# Altium schematic symbol library Comp.SchLib: 212 symbols (part 1 of 2)
Pins are listed as number, name and electrical type; pins without a type are passive.

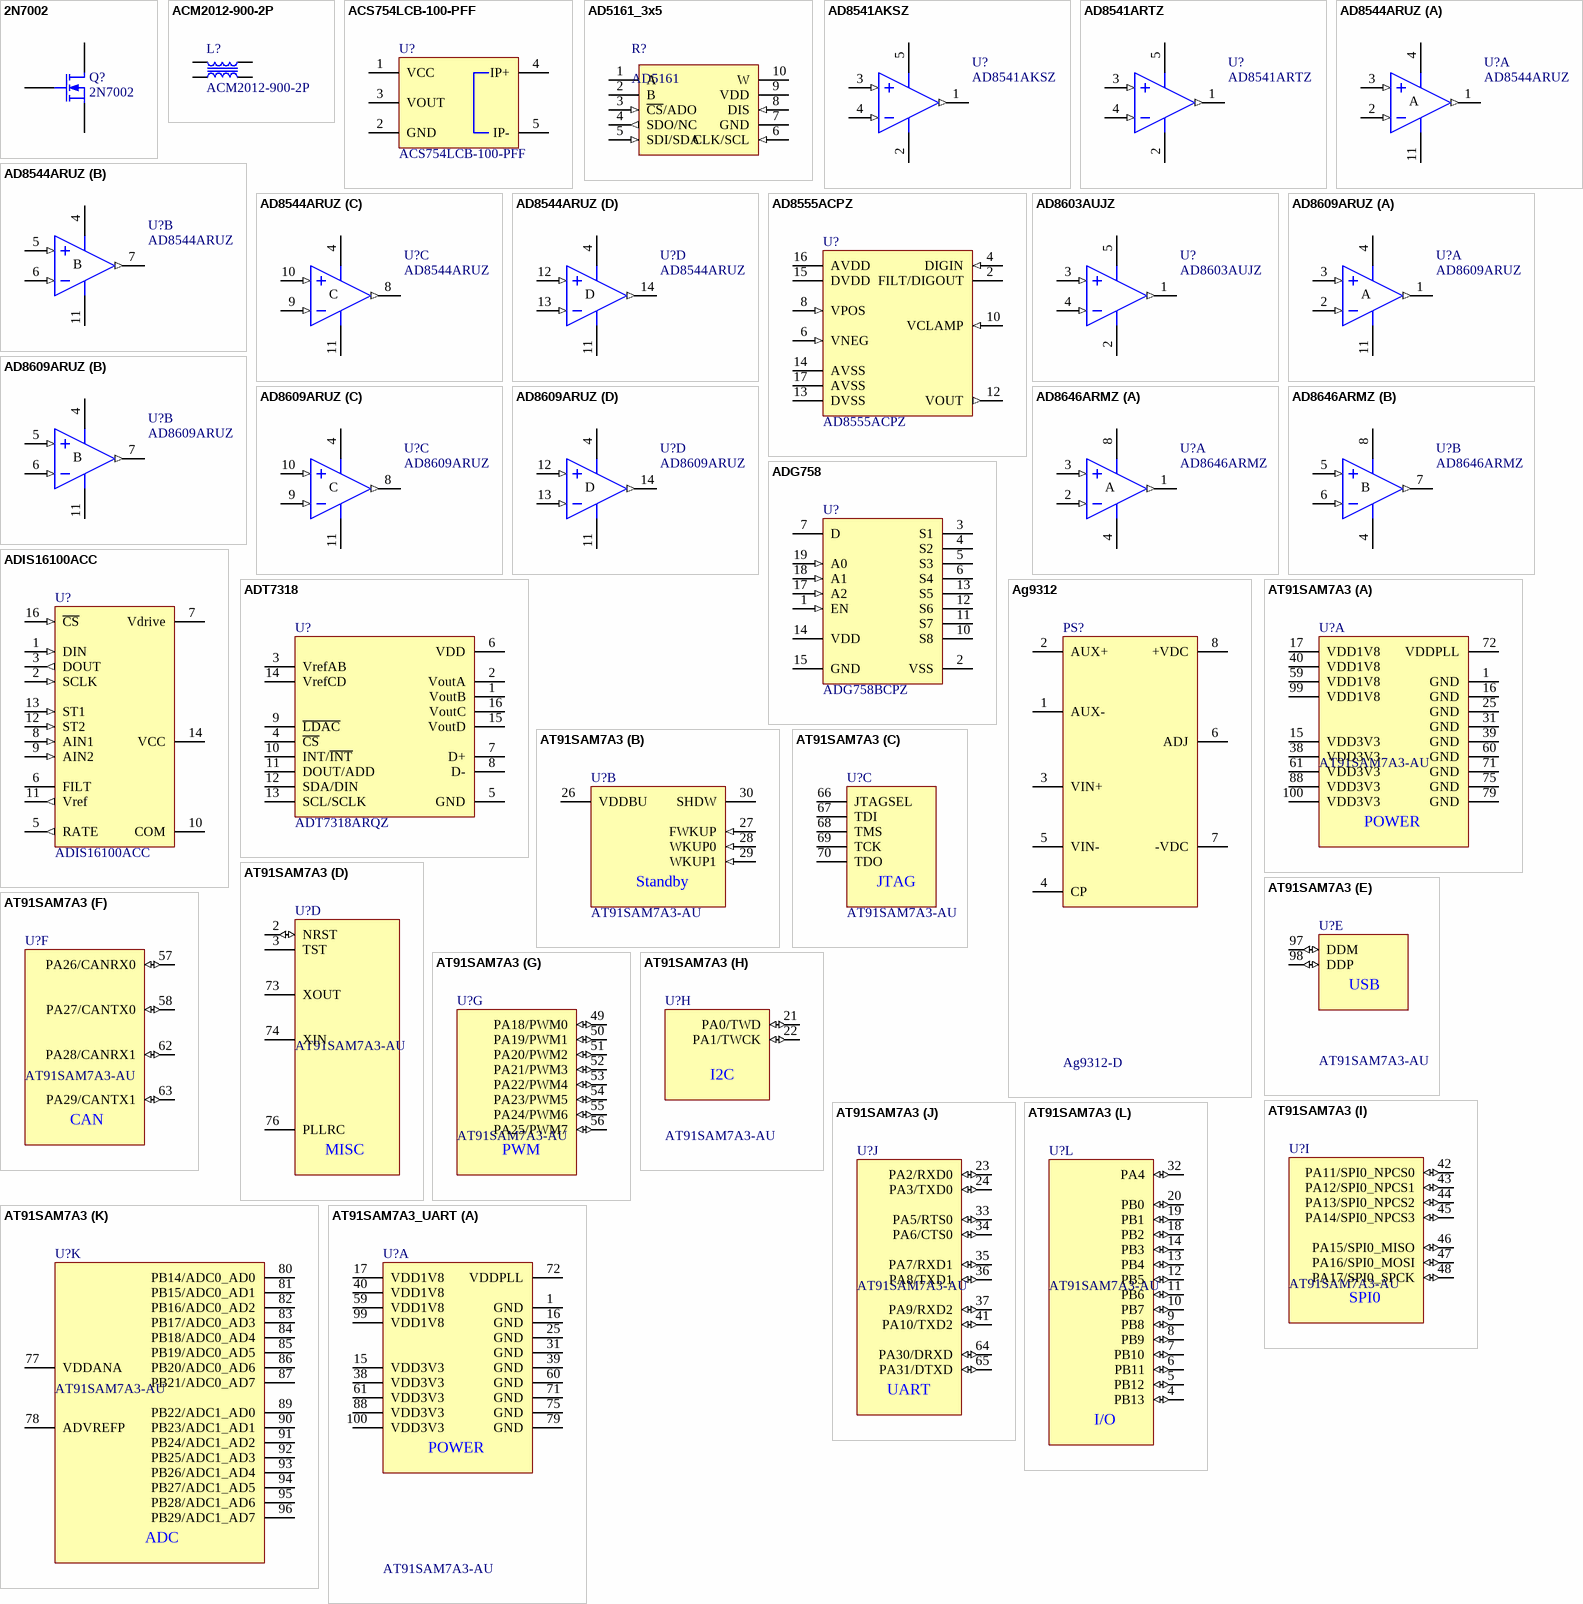
[diagram p0: symbols 2N7002 to AT91SAM7A3_UART]

## 2N7002
designator Q?
N-Channel Enhancement Mode Vertical DMOS FET; Manufacturer: NXP; OrderCode: 2N7002 T/R; Distributor: Digikey
footprint SO-G3 (SOT-23; 3 Leads; Body 3.0 x 2.6 mm, inc. leads (LxW max))
simulation model 2N7002 (SUBCKT)
pins: 1 G, 2 S, 3 D

## ACM2012-900-2P
designator L?
Common mode choke; Manufacturer: TDK; Distributor: Digikey; OrderCode: ACM2012-900-2P
footprint CHOKE (Common mode choke)
pins: 1, 2, 3, 4

## ACS754LCB-100-PFF
designator U?
High Current Sensor; Manufacturer: Allegro; Distributor: Digikey; OrderCode: ACS754LCB-100-PFF
footprint CB-PFF (High Current Sensor)
pins: 1 VCC, 2 GND, 3 VOUT, 4 IP+, 5 IP-

## AD5161_3x5
designator R?, comment AD5161
AD5161 SPI/I2C Selectable Digital Potentiometer; Manufacturer: Analog Devices; OrderCode: AD5161BRMZ50-ND; Distributor: Digikey
footprint TSSO3x5-G10 (Shrink Small Outline; 10 Leads; Body Width 3 mm; Pitch 0.5 mm)
footprint MSOP-10
pins: 1 A, 2 B, 3 ~{CS}/ADO (in), 4 SDO/NC (out), 5 SDI/SDA (in), 6 CLK/SCL (in), 7 GND (power), 8 DIS (in), 9 VDD (power), 10 W

## AD8541AKSZ
designator U?
1MHz CMOS Rail-to-Rail Operational Amplifier; Manufacturer: Analog Devices; OrderCode: AD8541AKSZ-REEL7; Distributor: Digikey
footprint SC70-5 (SC-70; 5 Leads)
pins: 1 OUT (out), 2 V- (power), 3 IN+ (in), 4 IN- (in), 5 V+ (power)

## AD8541ARTZ
designator U?
1MHz CMOS Rail-to-Rail Operational Amplifier; Manufacturer: Analog Devices; OrderCode: AD8541ARTZ-REEL7; Distributor: Digikey
footprint SO-G5/P.95 (SOT-23/SC-74A; 5 Leads; Body 3.1 x 3 mm, inc. leads (LxW max))
pins: 1 OUT (out), 2 V- (power), 3 IN+ (in), 4 IN- (in), 5 V+ (power)

## AD8544ARUZ
designator U?
CMOS Rail-to-Rail Operational Amplifier; Manufacturer: Analog Devices; Distributor: Digikey; OrderCode: AD8544ARUZ
footprint TSSO5x6-G14/X.3 (Shrink Small Outline; 14 Leads; Body Width 4.4 mm; Pitch 0.65 mm)
pins on every part: 4 V+ (power), 11 V- (power)
part A pins: 1 OUT (out), 2 IN- (in), 3 IN+ (in)
part B pins: 5 IN+ (in), 6 IN- (in), 7 OUT (out)
part C pins: 8 OUT (out), 9 IN- (in), 10 IN+ (in)
part D pins: 12 IN+ (in), 13 IN- (in), 14 OUT (out)
part A text: A
part B text: B
part C text: C
part D text: D

## AD8555ACPZ
designator U?
Digitally Programmable Signal Amplifier; Manufacturer: Analog Devices; OrderCode: AD8555ACPZ-REEL7; Distributor: Digikey
footprint QFN4X4-16 (Quad Flat No Lead, Plastic; 16 Terminals; Body 4 x 4 mm; Pitch 0.65 mm)
pins: 2 FILT/DIGOUT, 4 DIGIN (in), 6 VNEG (in), 8 VPOS (in), 10 VCLAMP (in), 12 VOUT (out), 13 DVSS (power), 14 AVSS (power), 15 DVDD (power), 16 AVDD (power), 17 AVSS (power)

## AD8603AUJZ
designator U?
1MHz CMOS Rail-to-Rail Operational Amplifier; Manufacturer: Analog Devices; OrderCode: AD8603AUJZ-REEL7; Distributor: Digikey
footprint SO-G5/P.95 (SOT-23/SC-74A; 5 Leads; Body 3.1 x 3 mm, inc. leads (LxW max))
pins: 1 OUT (out), 2 V- (power), 3 IN+ (in), 4 IN- (in), 5 V+ (power)

## AD8609ARUZ
designator U?
CMOS Rail-to-Rail Operational Amplifier; Manufacturer: Analog Devices; Distributor: Digikey; OrderCode: AD8609ARUZ
footprint TSSO5x6-G14/X.3 (Shrink Small Outline; 14 Leads; Body Width 4.4 mm; Pitch 0.65 mm)
pins on every part: 4 V+ (power), 11 V- (power)
part A pins: 1 OUT (out), 2 IN- (in), 3 IN+ (in)
part B pins: 5 IN+ (in), 6 IN- (in), 7 OUT (out)
part C pins: 8 OUT (out), 9 IN- (in), 10 IN+ (in)
part D pins: 12 IN+ (in), 13 IN- (in), 14 OUT (out)
part A text: A
part B text: B
part C text: C
part D text: D

## AD8646ARMZ
designator U?
Precision Low Noise CMOS Rail-to-Rail Operational Amplifier; Manufacturer: Analog Devices; OrderCode: AD8646ARMZ-R2; Distributor: Digikey
footprint MSOP-8/P.65 (MSOP, Plastic; 8 Leads; Pitch 0.65 mm)
pins on every part: 4 V- (power), 8 V+ (power)
part A pins: 1 OUT (out), 2 IN- (in), 3 IN+ (in)
part B pins: 5 IN+ (in), 6 IN- (in), 7 OUT (out)
part A text: A
part B text: B

## ADG758
designator U?, comment ADG758BCPZ
8 to 1 Analog Multiplexer; Manufacturer: Analog Devices; OrderCode: ADG758BCPZ; Distributor: Digikey
footprint QFN4X4-20 (Quad Flat No Lead; 20 Terminals; Body 4 x 4 mm; Pitch 0.5 mm)
pins: 1 EN (in), 2 VSS (power), 3 S1, 4 S2, 5 S3, 6 S4, 7 D, 10 S8, 11 S7, 12 S6, 13 S5, 14 VDD (power), 15 GND (power), 17 A2 (in), 18 A1 (in), 19 A0 (in)

## ADIS16100ACC
designator U?
SPI Gyroscope; Manufacturer: Analog Devices; OrderCode: ADIS16100ACC; Distributor: Digikey
footprint ADIS16100 (Gyroscope)
pins: 1 DIN (in), 2 SCLK (in), 3 DOUT (out), 5 RATE (out), 6 FILT, 7 Vdrive (power), 8 AIN1 (in), 9 AIN2 (in), 10 COM (power), 11 Vref (out), 12 ST2 (in), 13 ST1 (in), 14 VCC (power), 16 ~{CS} (in)

## ADT7318
designator U?, comment ADT7318ARQZ
4-ch 8 bit DAC and Temp Sensor; Manufacturer: Analog Devices; Distributor: Digikey; OrderCode: ADT7318ARQZ
footprint QSOP5x6-G16 (Shrink Small Outline; 16 Leads; Body Width 4.4 mm; Pitch 0.65 mm)
pins: 1 VoutB, 2 VoutA, 3 VrefAB, 4 ~{CS}, 5 GND (power), 6 VDD (power), 7 D+, 8 D-, 9 ~{LDAC}, 10 INT/~{INT}, 11 DOUT/ADD, 12 SDA/DIN, 13 SCL/SCLK, 14 VrefCD, 15 VoutD, 16 VoutC

## Ag9312
designator PS?, comment Ag9312-D
12V POE power supply module; Manufacturer: Silver Telecom; OrderCode: Ag9312; Distributor: www.semiconductorstore.com
footprint POE_SUPPLY (Power Over Ethernet Power Supply)
pins: 1 AUX- (power), 2 AUX+ (power), 3 VIN+ (power), 4 CP, 5 VIN- (power), 6 ADJ, 7 -VDC (power), 8 +VDC (power)

## AT91SAM7A3
designator U?, comment AT91SAM7A3-AU
ARM Processor; Manufacturer: Atmel; Distributor: Digikey; OrderCode: AT91SAM7A3-AU
footprint F-QFP14x14-G100/X.3N (100-Pin Plastic Quad Flat Pack (TQFP))
part A pins: 1 GND (power), 15 VDD3V3 (power), 16 GND (power), 17 VDD1V8 (power), 25 GND (power), 31 GND (power), 38 VDD3V3 (power), 39 GND (power), 40 VDD1V8 (power), 59 VDD1V8 (power), 60 GND (power), 61 VDD3V3 (power), 71 GND (power), 72 VDDPLL (power), 75 GND (power), 79 GND (power), 88 VDD3V3 (power), 99 VDD1V8 (power), 100 VDD3V3 (power)
part B pins: 26 VDDBU (power), 27 FWKUP (in), 28 WKUP0 (in), 29 WKUP1 (in), 30 SHDW (oc)
part C pins: 66 JTAGSEL, 67 TDI, 68 TMS, 69 TCK, 70 TDO
part D pins: 2 NRST (io), 3 TST, 73 XOUT, 74 XIN, 76 PLLRC
part E pins: 97 DDM (io), 98 DDP (io)
part F pins: 57 PA26/CANRX0 (io), 58 PA27/CANTX0 (io), 62 PA28/CANRX1 (io), 63 PA29/CANTX1 (io)
part G pins: 49 PA18/PWM0 (io), 50 PA19/PWM1 (io), 51 PA20/PWM2 (io), 52 PA21/PWM3 (io), 53 PA22/PWM4 (io), 54 PA23/PWM5 (io), 55 PA24/PWM6 (io), 56 PA25/PWM7 (io)
part H pins: 21 PA0/TWD (io), 22 PA1/TWCK (io)
part I pins: 42 PA11/SPI0_NPCS0 (io), 43 PA12/SPI0_NPCS1 (io), 44 PA13/SPI0_NPCS2 (io), 45 PA14/SPI0_NPCS3 (io), 46 PA15/SPI0_MISO (io), 47 PA16/SPI0_MOSI (io), 48 PA17/SPI0_SPCK (io)
part J pins: 23 PA2/RXD0 (io), 24 PA3/TXD0 (io), 33 PA5/RTS0 (io), 34 PA6/CTS0 (io), 35 PA7/RXD1 (io), 36 PA8/TXD1 (io), 37 PA9/RXD2 (io), 41 PA10/TXD2 (io), 64 PA30/DRXD (io), 65 PA31/DTXD (io)
part K pins: 77 VDDANA (power), 78 ADVREFP, 80 PB14/ADC0_AD0, 81 PB15/ADC0_AD1, 82 PB16/ADC0_AD2, 83 PB17/ADC0_AD3, 84 PB18/ADC0_AD4, 85 PB19/ADC0_AD5, 86 PB20/ADC0_AD6, 87 PB21/ADC0_AD7, 89 PB22/ADC1_AD0, 90 PB23/ADC1_AD1, 91 PB24/ADC1_AD2, 92 PB25/ADC1_AD3, 93 PB26/ADC1_AD4, 94 PB27/ADC1_AD5, 95 PB28/ADC1_AD6, 96 PB29/ADC1_AD7
part L pins: 4 PB13 (io), 5 PB12 (io), 6 PB11 (io), 7 PB10 (io), 8 PB9 (io), 9 PB8 (io), 10 PB7 (io), 11 PB6 (io), 12 PB5 (io), 13 PB4 (io), 14 PB3 (io), 18 PB2 (io), 19 PB1 (io), 20 PB0 (io), 32 PA4 (io)
part A text: POWER
part B text: Standby
part C text: JTAG
part D text: MISC
part E text: USB
part F text: CAN
part G text: PWM
part H text: I2C
part I text: SPI0
part J text: UART
part K text: ADC
part L text: I/O

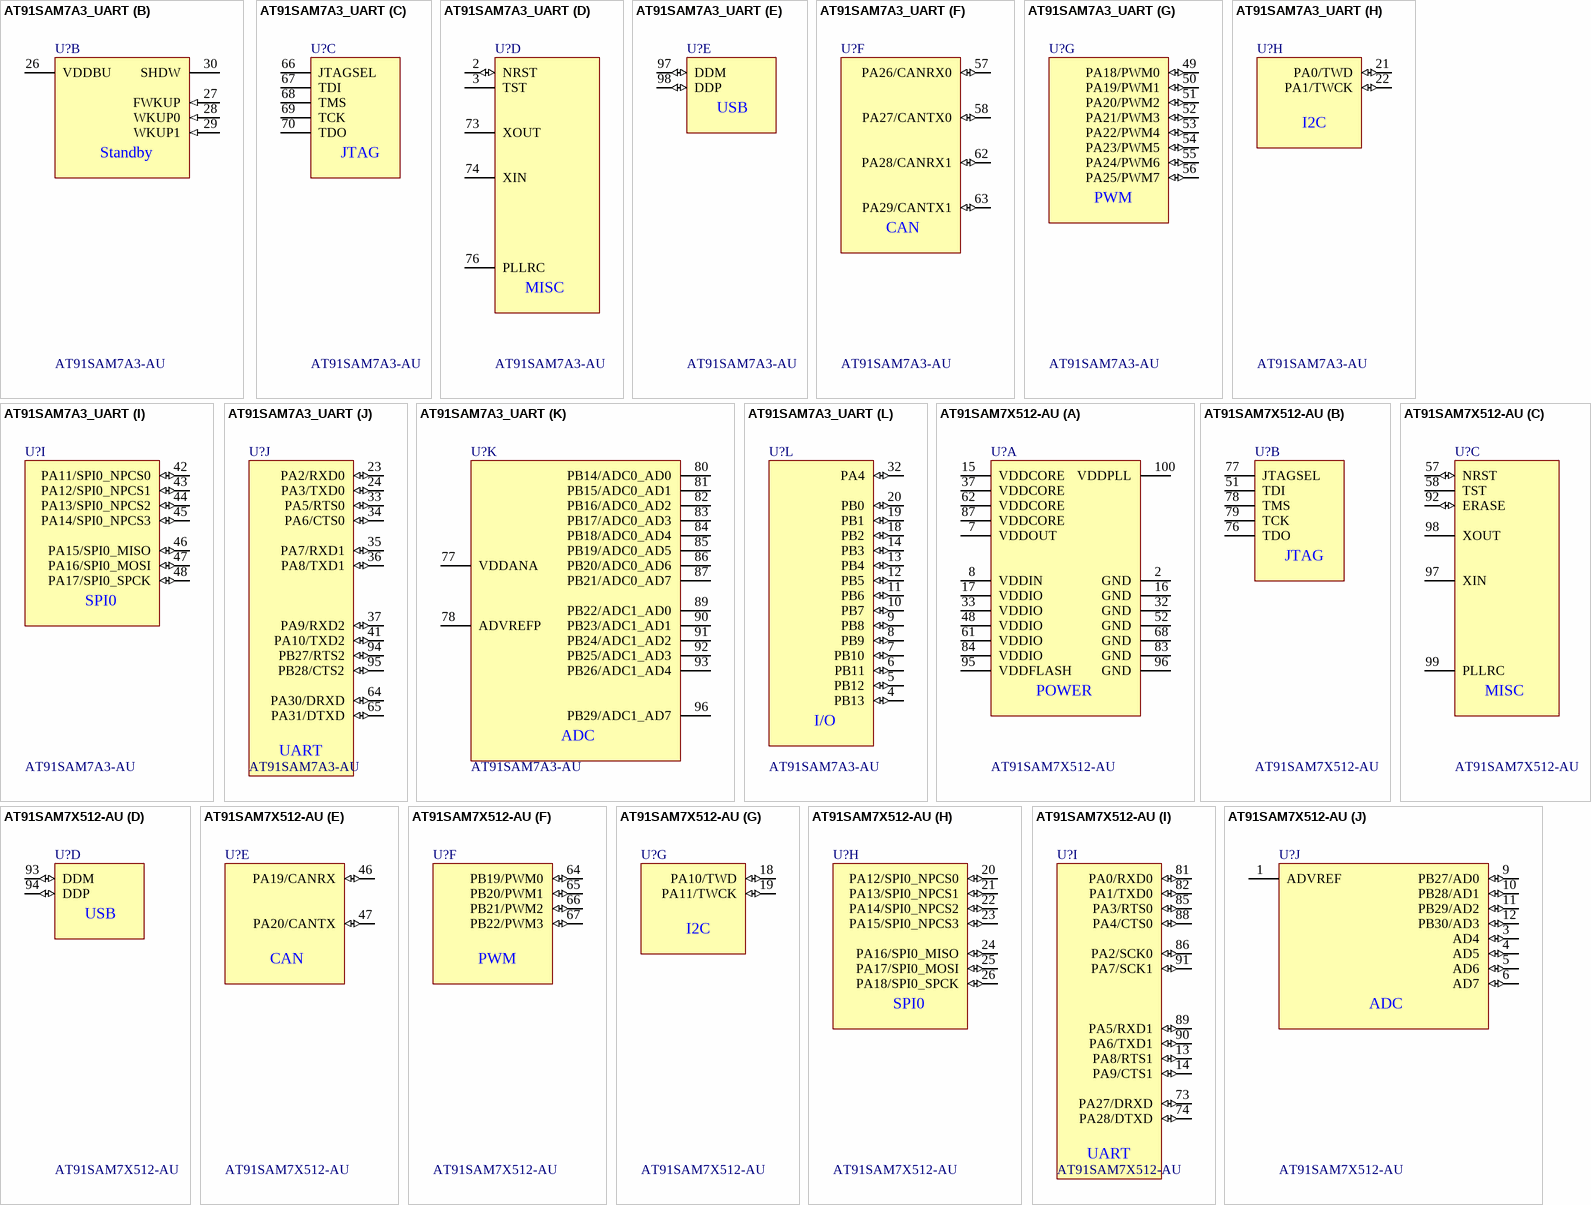
[diagram p1: symbols AT91SAM7A3_UART to AT91SAM7X512-AU]

## AT91SAM7A3_UART
designator U?, comment AT91SAM7A3-AU
ARM Processor; Manufacturer: Atmel; Distributor: Digikey; OrderCode: AT91SAM7A3-AU
footprint F-QFP14x14-G100/X.3N (100-Pin Plastic Quad Flat Pack (TQFP))
part A pins: 1 GND (power), 15 VDD3V3 (power), 16 GND (power), 17 VDD1V8 (power), 25 GND (power), 31 GND (power), 38 VDD3V3 (power), 39 GND (power), 40 VDD1V8 (power), 59 VDD1V8 (power), 60 GND (power), 61 VDD3V3 (power), 71 GND (power), 72 VDDPLL (power), 75 GND (power), 79 GND (power), 88 VDD3V3 (power), 99 VDD1V8 (power), 100 VDD3V3 (power)
part B pins: 26 VDDBU (power), 27 FWKUP (in), 28 WKUP0 (in), 29 WKUP1 (in), 30 SHDW (oc)
part C pins: 66 JTAGSEL, 67 TDI, 68 TMS, 69 TCK, 70 TDO
part D pins: 2 NRST (io), 3 TST, 73 XOUT, 74 XIN, 76 PLLRC
part E pins: 97 DDM (io), 98 DDP (io)
part F pins: 57 PA26/CANRX0 (io), 58 PA27/CANTX0 (io), 62 PA28/CANRX1 (io), 63 PA29/CANTX1 (io)
part G pins: 49 PA18/PWM0 (io), 50 PA19/PWM1 (io), 51 PA20/PWM2 (io), 52 PA21/PWM3 (io), 53 PA22/PWM4 (io), 54 PA23/PWM5 (io), 55 PA24/PWM6 (io), 56 PA25/PWM7 (io)
part H pins: 21 PA0/TWD (io), 22 PA1/TWCK (io)
part I pins: 42 PA11/SPI0_NPCS0 (io), 43 PA12/SPI0_NPCS1 (io), 44 PA13/SPI0_NPCS2 (io), 45 PA14/SPI0_NPCS3 (io), 46 PA15/SPI0_MISO (io), 47 PA16/SPI0_MOSI (io), 48 PA17/SPI0_SPCK (io)
part J pins: 23 PA2/RXD0 (io), 24 PA3/TXD0 (io), 33 PA5/RTS0 (io), 34 PA6/CTS0 (io), 35 PA7/RXD1 (io), 36 PA8/TXD1 (io), 37 PA9/RXD2 (io), 41 PA10/TXD2 (io), 64 PA30/DRXD (io), 65 PA31/DTXD (io), 94 PB27/RTS2 (io), 95 PB28/CTS2 (io)
part K pins: 77 VDDANA (power), 78 ADVREFP, 80 PB14/ADC0_AD0, 81 PB15/ADC0_AD1, 82 PB16/ADC0_AD2, 83 PB17/ADC0_AD3, 84 PB18/ADC0_AD4, 85 PB19/ADC0_AD5, 86 PB20/ADC0_AD6, 87 PB21/ADC0_AD7, 89 PB22/ADC1_AD0, 90 PB23/ADC1_AD1, 91 PB24/ADC1_AD2, 92 PB25/ADC1_AD3, 93 PB26/ADC1_AD4, 96 PB29/ADC1_AD7
part L pins: 4 PB13 (io), 5 PB12 (io), 6 PB11 (io), 7 PB10 (io), 8 PB9 (io), 9 PB8 (io), 10 PB7 (io), 11 PB6 (io), 12 PB5 (io), 13 PB4 (io), 14 PB3 (io), 18 PB2 (io), 19 PB1 (io), 20 PB0 (io), 32 PA4 (io)
part A text: POWER
part B text: Standby
part C text: JTAG
part D text: MISC
part E text: USB
part F text: CAN
part G text: PWM
part H text: I2C
part I text: SPI0
part J text: UART
part K text: ADC
part L text: I/O

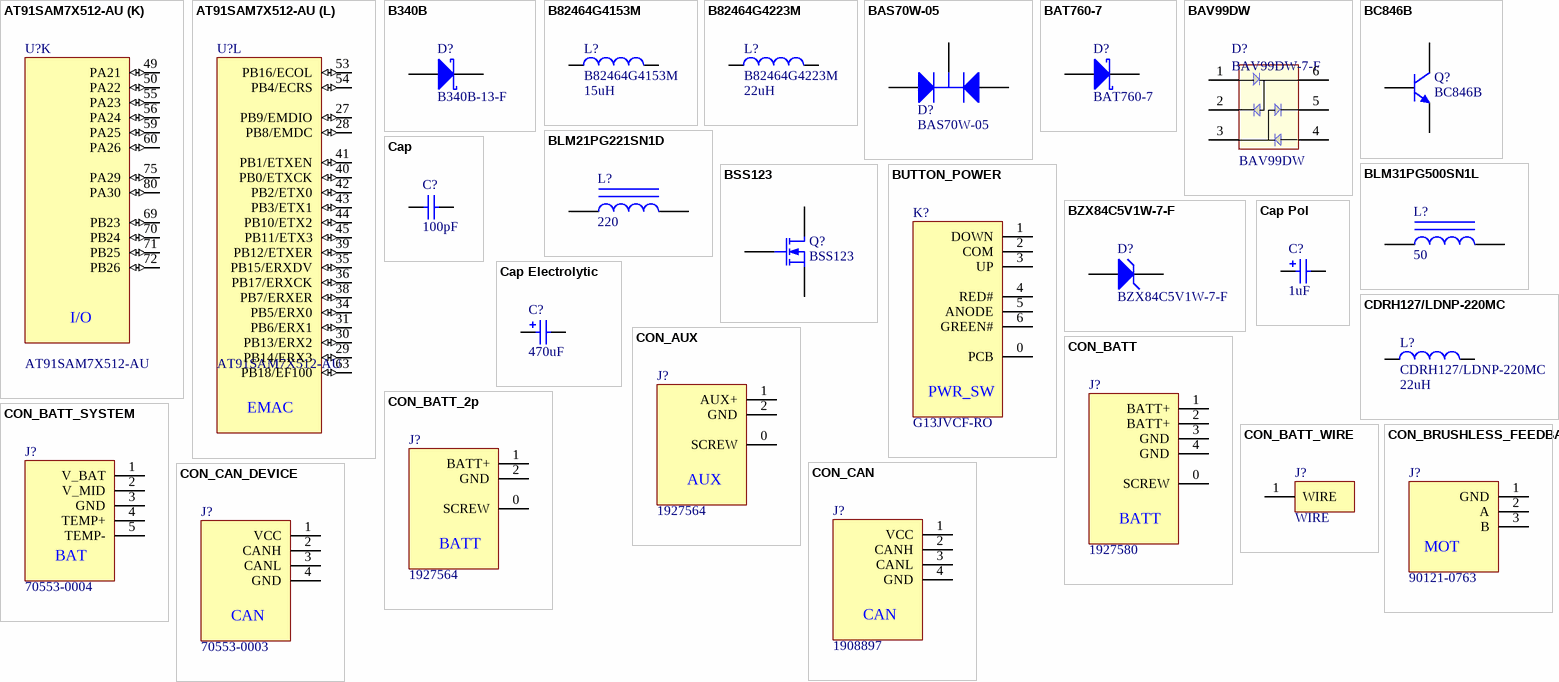
[diagram p2: symbols AT91SAM7X512-AU to CON_CAN_DEVICE]

## AT91SAM7X512-AU
designator U?
ARM Processor; Manufacturer: Atmel; Distributor: Digikey; OrderCode: AT91SAM7X512-AU
footprint F-QFP14x14-G100/X.3N (100-Pin Plastic Quad Flat Pack (TQFP))
part A pins: 2 GND (power), 7 VDDOUT (power), 8 VDDIN (power), 15 VDDCORE (power), 16 GND (power), 17 VDDIO (power), 32 GND (power), 33 VDDIO (power), 37 VDDCORE (power), 48 VDDIO (power), 52 GND (power), 61 VDDIO (power), 62 VDDCORE (power), 68 GND (power), 83 GND (power), 84 VDDIO (power), 87 VDDCORE (power), 95 VDDFLASH (power), 96 GND (power), 100 VDDPLL (power)
part B pins: 51 TDI, 76 TDO, 77 JTAGSEL, 78 TMS, 79 TCK
part C pins: 57 NRST (io), 58 TST, 92 ERASE (io), 97 XIN, 98 XOUT, 99 PLLRC
part D pins: 93 DDM (io), 94 DDP (io)
part E pins: 46 PA19/CANRX (io), 47 PA20/CANTX (io)
part F pins: 64 PB19/PWM0 (io), 65 PB20/PWM1 (io), 66 PB21/PWM2 (io), 67 PB22/PWM3 (io)
part G pins: 18 PA10/TWD (io), 19 PA11/TWCK (io)
part H pins: 20 PA12/SPI0_NPCS0 (io), 21 PA13/SPI0_NPCS1 (io), 22 PA14/SPI0_NPCS2 (io), 23 PA15/SPI0_NPCS3 (io), 24 PA16/SPI0_MISO (io), 25 PA17/SPI0_MOSI (io), 26 PA18/SPI0_SPCK (io)
part I pins: 13 PA8/RTS1 (io), 14 PA9/CTS1 (io), 73 PA27/DRXD (io), 74 PA28/DTXD (io), 81 PA0/RXD0 (io), 82 PA1/TXD0 (io), 85 PA3/RTS0 (io), 86 PA2/SCK0 (io), 88 PA4/CTS0 (io), 89 PA5/RXD1 (io), 90 PA6/TXD1 (io), 91 PA7/SCK1 (io)
part J pins: 1 ADVREF, 3 AD4 (io), 4 AD5 (io), 5 AD6 (io), 6 AD7 (io), 9 PB27/AD0 (io), 10 PB28/AD1 (io), 11 PB29/AD2 (io), 12 PB30/AD3 (io)
part K pins: 49 PA21 (io), 50 PA22 (io), 55 PA23 (io), 56 PA24 (io), 59 PA25 (io), 60 PA26 (io), 69 PB23 (io), 70 PB24 (io), 71 PB25 (io), 72 PB26 (io), 75 PA29 (io), 80 PA30 (io)
part L pins: 27 PB9/EMDIO (io), 28 PB8/EMDC (io), 29 PB14/ERX3 (io), 30 PB13/ERX2 (io), 31 PB6/ERX1 (io), 34 PB5/ERX0 (io), 35 PB15/ERXDV (io), 36 PB17/ERXCK (io), 38 PB7/ERXER (io), 39 PB12/ETXER (io), 40 PB0/ETXCK (io), 41 PB1/ETXEN (io), 42 PB2/ETX0 (io), 43 PB3/ETX1 (io), 44 PB10/ETX2 (io), 45 PB11/ETX3 (io), 53 PB16/ECOL (io), 54 PB4/ECRS (io), 63 PB18/EF100 (io)
part A text: POWER
part B text: JTAG
part C text: MISC
part D text: USB
part E text: CAN
part F text: PWM
part G text: I2C
part H text: SPI0
part I text: UART
part J text: ADC
part K text: I/O
part L text: EMAC

## B340B
designator D?, comment B340B-13-F
Schottky Diode 40V 3A SMB; Manufacturer: Diodes Inc; Distributor: Digikey; OrderCode: B340B-13-F
footprint DSO-C2/X2.3 (DO-214-AA/SMB; 2 C-Bend Leads; Body 5.3 x 3.6 mm, inc. leads (LxW))
simulation model SKYDIODE (Diode)
signal-integrity model D Schottky
pins: 1 A, 2 K

## B82464G4153M
designator L?  value 15uH
Inductor 15uH 2.75A EPCOS; Manufacturer: EPCOS; Distributor: Digikey; OrderCode: B82464G4153M
footprint B82464G4 (Coil footprint)
simulation model INDUCTOR (Inductor)
signal-integrity model Inductor
pins: 1, 2

## B82464G4223M
designator L?  value 22uH
Inductor 22uH 2.5A EPCOS; Manufacturer: EPCOS; Distributor: Digikey; OrderCode: B82464G4223M
footprint B82464G4 (Coil footprint)
simulation model INDUCTOR (Inductor)
signal-integrity model Inductor
pins: 1, 2

## BAS70W-05
designator D?
SOT23 High-Speed Switching Diode Pair Common Cathode; Manufacturer: Diodes; OrderCode: BAS70W-05-7-F; Distributor: Digikey
footprint SO-G3/D4 (SOT-323/SC-70; 3 Leads; Body 2.2 x 2.2 mm, inc. leads (LxW max))
pins: 1 A1, 2 A2, 3 K

## BAT760-7
designator D?
Schottky Diode 30V 1A SOD323; Manufacturer: Diodes Inc; Distributor: Digikey; OrderCode: BAT760-7
footprint SOD-323 (SOD-323/SC-76; 2 Leads; Body 1.7 x 1.3 mm, (LxW))
simulation model SKYDIODE (Diode)
signal-integrity model D Schottky
pins: 1 A, 2 K

## BAV99DW
designator D?, comment BAV99DW-7-F
Quad surface mount switching diode array; Manufacturer: Diodes Incorporated; Distributor: DigiKey; OrderCode: BAV99DW-7-F
footprint SOT-323-6L
pins: 1 A1, 2 C1, 3 AC2, 4 A2, 5 C2, 6 AC1

## BC846B
designator Q?
NPN Bipolar Transistor; Manufacturer: NXP; OrderCode: BC846B T/R; Distributor: Digikey
footprint SO-G3 (SOT-23; 3 Leads; Body 3.0 x 2.6 mm, inc. leads (LxW max))
simulation model NPN
signal-integrity model NPN
pins: 1 B, 2 E, 3 C

## BLM21PG221SN1D
designator L?  value 220  (hidden comment: BLM21PG221SN1D)
Ferrite-Core Inductor; Manufacturer: Murata; OrderCode: BLM21PG221SN1D; Distributor: Digikey
footprint CR2012-0805 (Chip Resistor; Body 2.0 x 1.3 mm (LxW typ))
simulation model INDUCTOR (Inductor)
signal-integrity model Inductor Iron
pins: 1, 2

## BLM31PG500SN1L
designator L?  value 50  (hidden comment: BLM31PG500SN1L)
Ferrite-Core Inductor; Manufacturer: Murata; OrderCode: BLM31PG500SN1L; Distributor: Digikey
footprint CR3216-1206 (Chip Resistor; Body 3.2 x 1.6 mm (LxW typ))
simulation model INDUCTOR (Inductor)
signal-integrity model Inductor Iron
pins: 1, 2

## BSS123
designator Q?
N-Channel FET 100V; Manufacturer: Fairchild; OrderCode: BSS123; Distributor: Digikey
footprint SO-G3 (SOT-23; 3 Leads; Body 3.0 x 2.6 mm, inc. leads (LxW max))
simulation model 2N7002 (SUBCKT)
pins: 1 G, 2 S, 3 D

## BUTTON_POWER
designator K?, comment G13JVCF-RO
Toggle Switch SPDT Illuminated; Manufacturer: NKK; Distributor: Mouser; OrderCode: G13JVCF-RO
footprint BUTTON_PWR (SPDT Illuminated Switch)
pins: 0 PCB, 1 DOWN, 2 COM, 3 UP, 4 RED#, 5 ANODE, 6 GREEN#
text: PWR_SW

## BZX84C5V1W-7-F
designator D?
Zener Voltage Regulator Diode; Manufacturer: Diodes Inc; Distributor: Digikey; OrderCode: BZX84C5V1W-7-F
footprint SO-G3/D4 (SOT-323/SC-70; 3 Leads; Body 2.2 x 2.2 mm, inc. leads (LxW max))
pins: 1 A, 3 K

## Cap
designator C?  value 100pF
Capacitor
footprint CC1608-0603 (Chip Capacitor; Body 1.6 x 0.8 mm (LxW typ))
simulation model CAP (Capacitor)
signal-integrity model Cap
footprint CC2012-0805 (Chip Capacitor; Body 2.0 x 1.2 mm (LxW typ))
footprint CC4532-1812 (Chip Capacitor; Body 4.5 x 3.2 mm (LxW typ))
footprint CC3225-1210 (Chip Capacitor; Body 3.2 x 2.5 mm (LxW typ))
footprint CC3216-1206 (Chip Capacitor; Body 3.2 x 1.6 mm (LxW typ))
pins: 1, 2

## Cap Electrolytic
designator C?  value 470uF  (hidden comment: Cap Electrolytic)
Electrolytic Capacitor; Distributor: Digikey
footprint CAP_ELEC-S5D12 (Electrolytic capacitor 12.5mm diameter, 5mm terminal spacing)
pins: 1, 2
1 alternate drawing of the same symbol

## Cap Pol
designator C?  value 1uF
Polarized Capacitor (Surface Mount); Distributor: Digikey
footprint TC7343-2917 (Capacitor, SM Tantalum; Body 7.3 x 4.3 mm (LxW typ))
simulation model CAP (Capacitor)
signal-integrity model Cap Pol
footprint TC7360-2924 (Capacitor, SM Tantalum; Body 7.3 x 6.0 mm (LxW typ))
footprint CAP8x10_V (Electrolytic Capacitor)
pins: 1, 2
1 alternate drawing of the same symbol

## CDRH127/LDNP-220MC
designator L?  value 22uH
Inductor 22uH 4.7A Sumida; Manufacturer: Sumida; Distributor: Digikey; OrderCode: CDRH127/LDNP-220MC
footprint CDRH127 (Coil footprint)
simulation model INDUCTOR (Inductor)
signal-integrity model Inductor
pins: 1, 2

## CON_AUX
designator J?, comment 1927564
2 pin Power Connector 5.08mm pitch; Manufacturer: Phoenix Contact; Distributor: Mouser; OrderCode: 1927564
footprint CON_POWER_AUX (2 pin Power Connector)
pins: 0 SCREW, 1 AUX+, 2 GND
text: AUX

## CON_BATT
designator J?, comment 1927580
4 pin Battery Connector 5.08mm pitch; Manufacturer: Phoenix Contact; Distributor: Mouser; OrderCode: 1927580
footprint CON_POWER (4-pin Power Connector)
pins: 0 SCREW, 1 BATT+, 2 BATT+, 3 GND, 4 GND
text: BATT

## CON_BATT_2p
designator J?, comment 1927564
2 pin Battery Connector 5.08mm pitch; Manufacturer: Phoenix Contact; Distributor: Mouser; OrderCode: 1927564
footprint CON_POWER_AUX (2 pin Power Connector)
pins: 0 SCREW, 1 BATT+, 2 GND
text: BATT

## CON_BATT_SYSTEM
designator J?, comment 70553-0004
5 pin Battery Connector 2.54mm pitch (low current); Manufacturer: Molex; Distributor: Digikey; OrderCode: 70553-0004
footprint CON_BATT_System (5-pin low current battery connector)
pins: 1 V_BAT, 2 V_MID, 3 GND, 4 TEMP+, 5 TEMP-
text: BAT

## CON_BATT_WIRE
designator J?, comment WIRE
High Current Direct Wire Connection
footprint CON_BATT_CURRENT (Current Probe for Motor Battery)
pins: 1 WIRE

## CON_BRUSHLESS_FEEDBACK
designator J?, comment 90121-0763
3pin Brushless Motor Feedback Connector 2.54mm pitch; Manufacturer: Molex; Distributor: Digikey; OrderCode: 90121-0763
footprint CON_BRUSHLESS (3-pin brushless motor feedback connector)
pins: 1 GND, 2 A, 3 B
text: MOT

## CON_CAN
designator J?, comment 1908897
4 pin CAN Connector 3.81mm pitch; Manufacturer: Phoenix Contact; Distributor: Mouser; OrderCode: 1908897
footprint CON_CAN (4-pin CAN Connector)
pins: 1 VCC, 2 CANH, 3 CANL, 4 GND
text: CAN

## CON_CAN_DEVICE
designator J?, comment 70553-0003
4 pin CAN Connector 2.54mm pitch; Manufacturer: Molex; Distributor: Digikey; OrderCode: 70553-0003
footprint CON_CAN_Device-4 (4-pin CAN connector - device side)
pins: 1 VCC, 2 CANH, 3 CANL, 4 GND
text: CAN

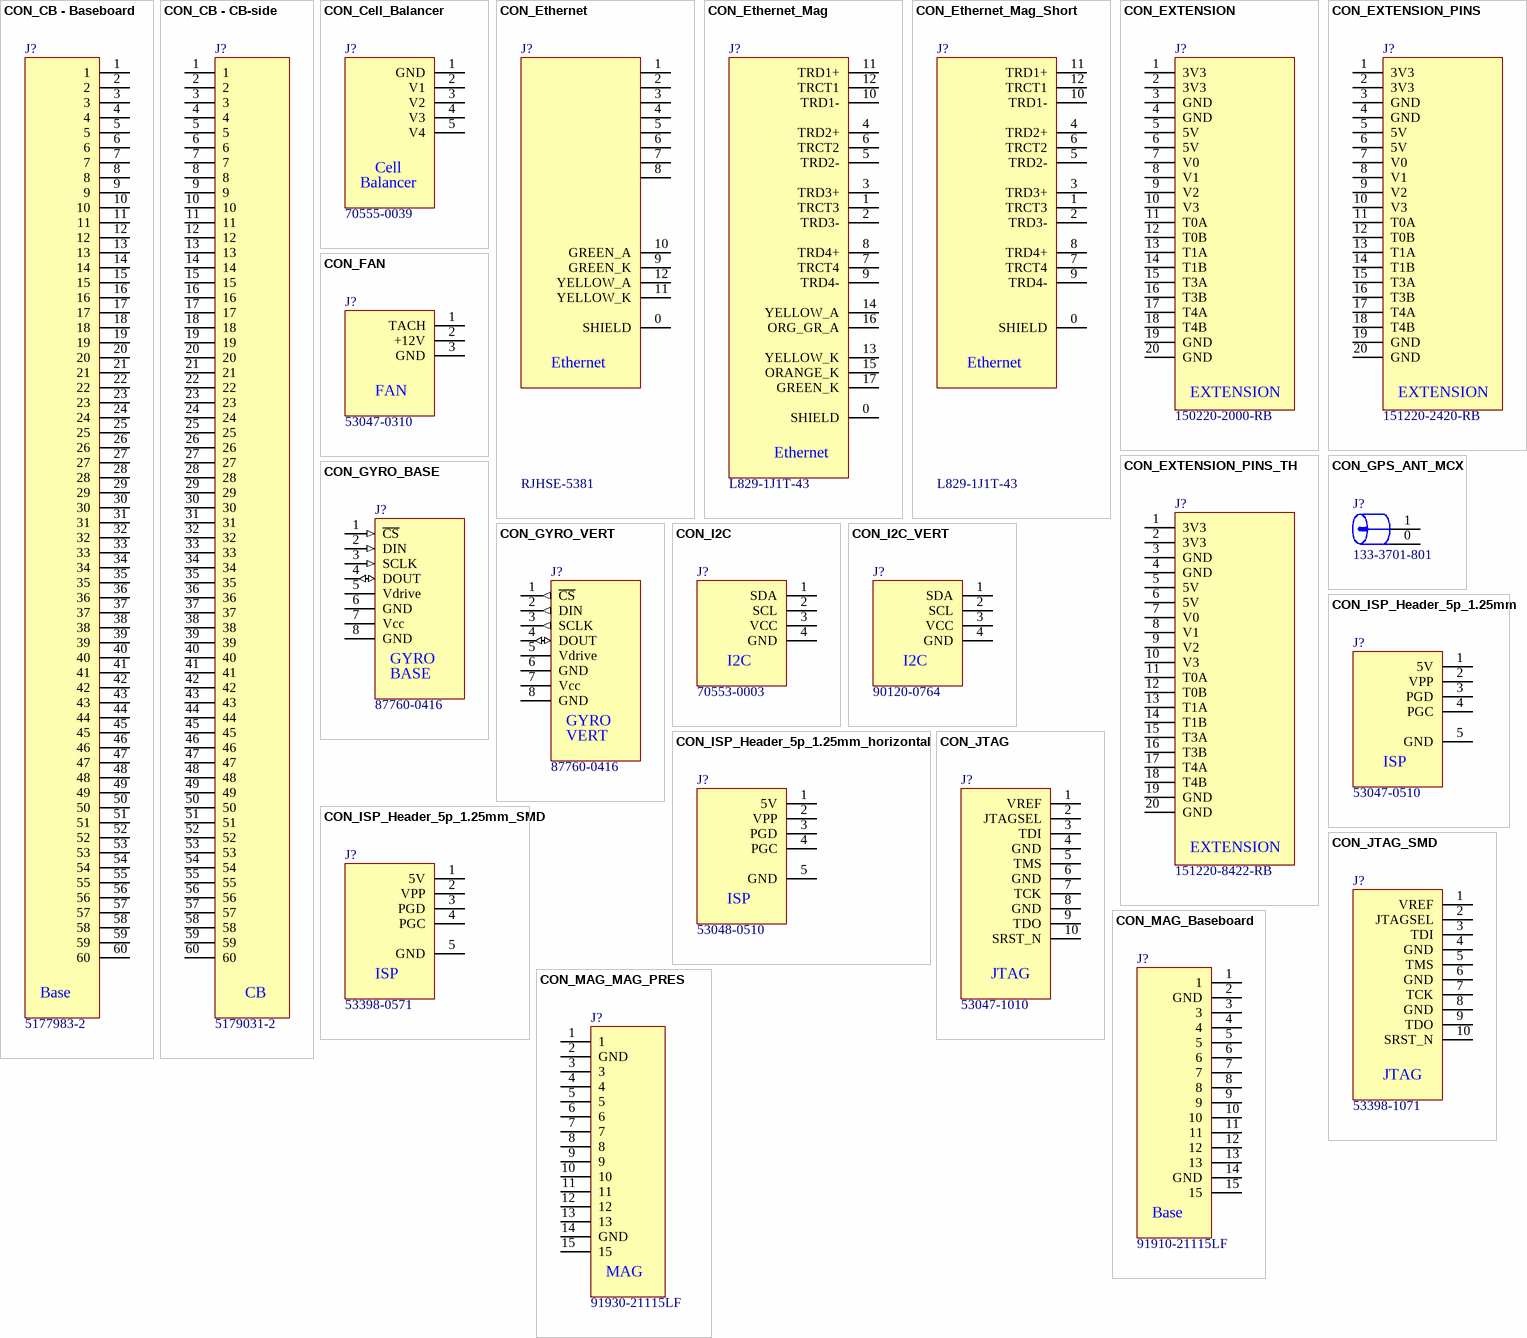
[diagram p3: symbols CON_CB - Baseboard to CON_MAG_MAG_PRES]

## CON_CB - Baseboard
designator J?, comment 5177983-2
CONN Baseboard-CB 60 pin Receptacle (Baseboard side); Manufacturer: AMP; Distributor: Mouser; OrderCode: 5177983-2
footprint CON_CB_Plug (Baseboard to Connector board - Baseboard side - 179031-2)
pins: 1, 2, 3, 4, 5, 6, 7, 8, 9, 10, 11, 12, 13, 14, 15, 16, 17, 18, 19, 20, 21, 22, 23, 24, 25, 26, 27, 28, 29, 30, 31, 32, 33, 34, 35, 36, 37, 38, 39, 40, 41, 42, 43, 44, 45, 46, 47, 48, 49, 50, 51, 52, 53, 54, 55, 56, 57, 58, 59, 60
text: Base

## CON_CB - CB-side
designator J?, comment 5179031-2
CONN Baseboard-CB 60 pin Plug (CB side); Manufacturer: AMP; Distributor: Mouser; OrderCode: 5179031-2
footprint CON_CB_Receptacle (Baseboard to Connector board - CB side - 177983-2)
pins: 1, 2, 3, 4, 5, 6, 7, 8, 9, 10, 11, 12, 13, 14, 15, 16, 17, 18, 19, 20, 21, 22, 23, 24, 25, 26, 27, 28, 29, 30, 31, 32, 33, 34, 35, 36, 37, 38, 39, 40, 41, 42, 43, 44, 45, 46, 47, 48, 49, 50, 51, 52, 53, 54, 55, 56, 57, 58, 59, 60
text: CB

## CON_Cell_Balancer
designator J?, comment 70555-0039
5 pin Cell Balancer Connector; Manufacturer: Molex; OrderCode: 70555-0039 + 50-57-9405 + 5 x 16-02-0109; Distributor: Mouser
footprint CON_CellBalancer (Connector for a 5-pin Cell Balancer)
pins: 1 GND, 2 V1, 3 V2, 4 V3, 5 V4
text: Cell; Balancer

## CON_Ethernet
designator J?, comment RJHSE-5381
CONN Ethernet 1PORT SHLD; Manufacturer: Amphenol; Distributor: Digikey; OrderCode: RJHSE-5381
footprint CON_Ethernet_Simple (Ethernet Connector)
pins: 0 SHIELD, 1, 2, 3, 4, 5, 6, 7, 8, 9 GREEN_K, 10 GREEN_A, 11 YELLOW_K, 12 YELLOW_A
text: Ethernet

## CON_Ethernet_Mag
designator J?, comment L829-1J1T-43
CONN Ethernet 1PORT SHLD 1000BT; Manufacturer: Stewart Connector Systems; Distributor: Digikey; OrderCode: L829-1J1T-43
footprint CON_Ethernet (Ethernet Connector with Integrated Magnetics)
pins: 0 SHIELD, 1 TRCT3, 2 TRD3-, 3 TRD3+, 4 TRD2+, 5 TRD2-, 6 TRCT2, 7 TRCT4, 8 TRD4+, 9 TRD4-, 10 TRD1-, 11 TRD1+, 12 TRCT1, 13 YELLOW_K, 14 YELLOW_A, 15 ORANGE_K, 16 ORG_GR_A, 17 GREEN_K
text: Ethernet

## CON_Ethernet_Mag_Short
designator J?, comment L829-1J1T-43
CONN Ethernet 1PORT SHLD 1000BT (Used for the correction board); Manufacturer: Stewart Connector Systems; Distributor: Digikey; OrderCode: L829-1J1T-43
footprint CON_Ethernet short (Ethernet Connector with Integrated Magnetics)
pins: 0 SHIELD, 1 TRCT3, 2 TRD3-, 3 TRD3+, 4 TRD2+, 5 TRD2-, 6 TRCT2, 7 TRCT4, 8 TRD4+, 9 TRD4-, 10 TRD1-, 11 TRD1+, 12 TRCT1
text: Ethernet

## CON_EXTENSION
designator J?, comment 150220-2000-RB
Extension connector; Manufacturer: 3M; OrderCode: 150220-2000-RB; Distributor: Digikey
footprint CON_EXTENSION (Extension connector)
pins: 1 3V3, 2 3V3, 3 GND, 4 GND, 5 5V, 6 5V, 7 V0, 8 V1, 9 V2, 10 V3, 11 T0A, 12 T0B, 13 T1A, 14 T1B, 15 T3A, 16 T3B, 17 T4A, 18 T4B, 19 GND, 20 GND
text: EXTENSION

## CON_EXTENSION_PINS
designator J?, comment 151220-2420-RB
Extension connector; Manufacturer: 3M; OrderCode: 151220-2420-RB; Distributor: Digikey
footprint CON_EXTENSION_PINS (Extension connector)
pins: 1 3V3, 2 3V3, 3 GND, 4 GND, 5 5V, 6 5V, 7 V0, 8 V1, 9 V2, 10 V3, 11 T0A, 12 T0B, 13 T1A, 14 T1B, 15 T3A, 16 T3B, 17 T4A, 18 T4B, 19 GND, 20 GND
text: EXTENSION

## CON_EXTENSION_PINS_TH
designator J?, comment 151220-8422-RB
Extension connector (through hole); Manufacturer: 3M; OrderCode: 151220-8422-RB; Distributor: Digikey
footprint CON_EXTENSION_PINS_TH (Extension connector (through hole))
pins: 1 3V3, 2 3V3, 3 GND, 4 GND, 5 5V, 6 5V, 7 V0, 8 V1, 9 V2, 10 V3, 11 T0A, 12 T0B, 13 T1A, 14 T1B, 15 T3A, 16 T3B, 17 T4A, 18 T4B, 19 GND, 20 GND
text: EXTENSION

## CON_FAN
designator J?, comment 53047-0310
3 pin header - 1.25mm pitch; Manufacturer: Molex; OrderCode: 53047-0310 + 51021-0300 + 3 x 50079-8000; Distributor: Digikey
footprint CON_FAN (Cooling Fan Connector)
pins: 1 TACH, 2 +12V, 3 GND
text: FAN

## CON_GPS_ANT_MCX
designator J?, comment 133-3701-801
GPS SMD MCX Connector; Manufacturer: Emerson; Distributor: Digikey; OrderCode: 133-3701-801
footprint CON_MCX_Board_Edge (MCX connector board edge)
pins: 0, 1

## CON_GYRO_BASE
designator J?, comment 87760-0416
8 pin Vertical Gyroscope connector (BASE); Manufacturer: Molex; OrderCode: none (holes); Distributor: Digikey
footprint CON_GYRO_BASE
pins: 1 ~{CS} (in), 2 DIN (in), 3 SCLK (in), 4 DOUT (io), 5 Vdrive (power), 6 GND (power), 7 Vcc (power), 8 GND (power)
text: GYRO; BASE

## CON_GYRO_VERT
designator J?, comment 87760-0416
8 pin Vertical Gyroscope connector (Vertical module); Manufacturer: Molex; OrderCode: 87760-0416 x 2; Distributor: Digikey
footprint CON_GYRO_VERT
pins: 1 ~{CS} (out), 2 DIN (out), 3 SCLK (out), 4 DOUT (io), 5 Vdrive (power), 6 GND (power), 7 Vcc (power), 8 GND (power)
text: GYRO; VERT

## CON_I2C
designator J?, comment 70553-0003
4pin I2C Connector 2.54mm pitch; Manufacturer: Molex; Distributor: Digikey; OrderCode: 70553-0003
footprint CON_Speed_System (4-pin Speed connector)
pins: 1 SDA, 2 SCL, 3 VCC, 4 GND
text: I2C

## CON_I2C_VERT
designator J?, comment 90120-0764
4pin I2C Connector 2.54mm pitch (Vertical); Manufacturer: Molex; Distributor: Digikey; OrderCode: 90120-0764
footprint CON_HEADER-4p_VERT (2.54mm pitch)
pins: 1 SDA, 2 SCL, 3 VCC, 4 GND
text: I2C

## CON_ISP_Header_5p_1.25mm
designator J?, comment 53047-0510
5 pin header - 1.25mm pitch; Manufacturer: Molex; OrderCode: 53047-0510 + 51021-0500 + 5 x 50079-8000; Distributor: Digikey
footprint CON_ISP (Microchip ISP Connector)
pins: 1 5V, 2 VPP, 3 PGD, 4 PGC, 5 GND
text: ISP

## CON_ISP_Header_5p_1.25mm_horizontal
designator J?, comment 53048-0510
5 pin header - 1.25mm pitch horizontal; Manufacturer: Molex; OrderCode: 53048-0510 + 51021-0500 + 5 x 50079-8000; Distributor: Digikey
footprint CON_ISP_H (Microchip ISP Connector horizontal)
pins: 1 5V, 2 VPP, 3 PGD, 4 PGC, 5 GND
text: ISP

## CON_ISP_Header_5p_1.25mm_SMD
designator J?, comment 53398-0571
5 pin header - 1.25mm pitch SMD; Manufacturer: Molex; OrderCode: 53398-0571 + 51021-0500 + 5 x 50079-8000; Distributor: Mouser
footprint CON_ISP_SMD (Microchip ISP Connector)
pins: 1 5V, 2 VPP, 3 PGD, 4 PGC, 5 GND
text: ISP

## CON_JTAG
designator J?, comment 53047-1010
10 pin header - 1.25mm pitch; Manufacturer: Molex; OrderCode: 53047-1010 + 51021-1000 + 10 x 50079-8000; Distributor: Digikey
footprint CON_Header-10p (1.25mm pitch header)
pins: 1 VREF, 2 JTAGSEL, 3 TDI, 4 GND, 5 TMS, 6 GND, 7 TCK, 8 GND, 9 TDO, 10 SRST_N
text: JTAG

## CON_JTAG_SMD
designator J?, comment 53398-1071
10 pin header - 1.25mm pitch; Manufacturer: Molex; OrderCode: 53398-1071 + 51021-1000 + 10 x 50079-8000; Distributor: Digikey
footprint CON_HEADER-10P_SMD (1.25mm pitch header)
pins: 1 VREF, 2 JTAGSEL, 3 TDI, 4 GND, 5 TMS, 6 GND, 7 TCK, 8 GND, 9 TDO, 10 SRST_N
text: JTAG

## CON_MAG_Baseboard
designator J?, comment 91910-21115LF
CONN Magnetic 15 pin Receptacle (Baseboard side); Manufacturer: FCI; Distributor: Mouser; OrderCode: 91910-21115LF
footprint CON_BB_7mm_15P_receptacle (Board to Board Connector GPS module (Receptacle))
pins: 1, 2 GND, 3, 4, 5, 6, 7, 8, 9, 10, 11, 12, 13, 14 GND, 15
text: Base

## CON_MAG_MAG_PRES
designator J?, comment 91930-21115LF
CONN Magnetic_Pressure 15 pin Header; Manufacturer: FCI; Distributor: Mouser; OrderCode: 91930-21115LF
footprint CON_BB_7mm_15P_header (Board to Board Connector GPS module (Header))
pins: 1, 2 GND, 3, 4, 5, 6, 7, 8, 9, 10, 11, 12, 13, 14 GND, 15
text: MAG

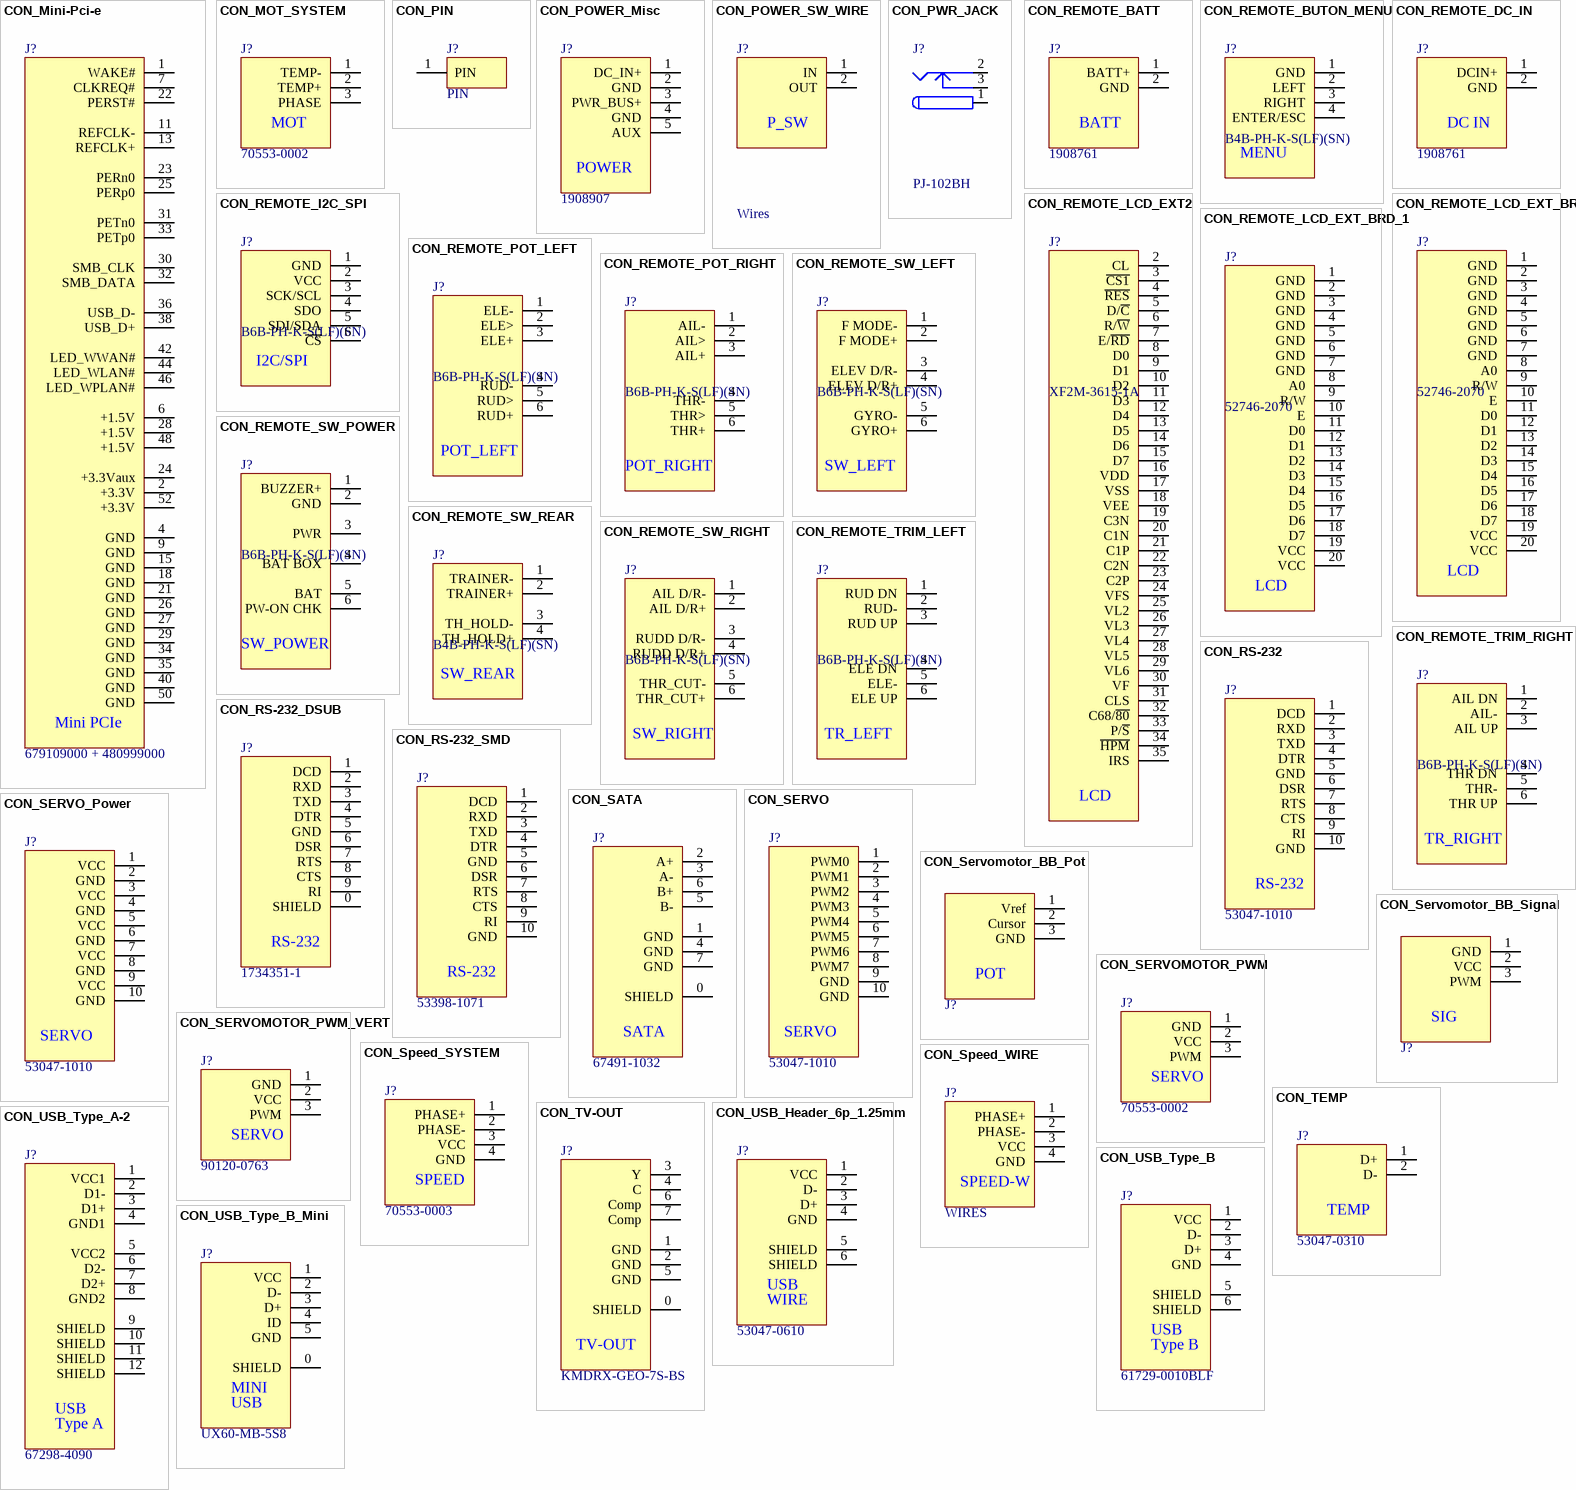
[diagram p4: symbols CON_Mini-Pci-e to CON_USB_Type_B_Mini]

## CON_Mini-Pci-e
designator J?, comment 679109000 + 480999000
Mini PCIe Connector + Latch 9mm H; Manufacturer: Molex; Distributor: Molex Samples; OrderCode: 679109000 + 480999000
footprint CON_Mini-PCIe (Mini PCIe Connector - 9mm - Molex 679109000)
pins: 1 WAKE#, 2 +3.3V, 4 GND, 6 +1.5V, 7 CLKREQ#, 9 GND, 11 REFCLK-, 13 REFCLK+, 15 GND, 18 GND, 21 GND, 22 PERST#, 23 PERn0, 24 +3.3Vaux, 25 PERp0, 26 GND, 27 GND, 28 +1.5V, 29 GND, 30 SMB_CLK, 31 PETn0, 32 SMB_DATA, 33 PETp0, 34 GND, 35 GND, 36 USB_D-, 38 USB_D+, 40 GND, 42 LED_WWAN#, 44 LED_WLAN#, 46 LED_WPLAN#, 48 +1.5V, 50 GND, 52 +3.3V
text: Mini PCIe

## CON_MOT_SYSTEM
designator J?, comment 70553-0002
3pin Motor Connector 2.54mm pitch (low current); Manufacturer: Molex; Distributor: Digikey; OrderCode: 70553-0002
footprint CON_MOT_System (3-pin low current motor connector)
pins: 1 TEMP-, 2 TEMP+, 3 PHASE
text: MOT

## CON_PIN
designator J?, comment PIN
1-pin connector
footprint CON_PIN (1 pin connector)
pins: 1 PIN

## CON_POWER_Misc
designator J?, comment 1908907
5 pin DC-In and Power Bus Connector 5.81mm pitch; Manufacturer: Phoenix Contact; Distributor: Mouser; OrderCode: 1908907
footprint CON_POWER_Misc (5-pin Power Connector)
pins: 1 DC_IN+, 2 GND, 3 PWR_BUS+, 4 GND, 5 AUX
text: POWER

## CON_POWER_SW_WIRE
designator J?, comment Wires
2 wire connector (direct soldering)
footprint CON_WIRE2 (Direct wire connection)
pins: 1 IN, 2 OUT
text: P_SW

## CON_PWR_JACK
designator J?, comment PJ-102BH
Power Jack 2.5mm ID / 5.5mm OD; Manufacturer: CUI Inc; Distributor: Digikey; OrderCode: PJ-102BH
footprint CON_PWR_JACK (Power jack)
pins: 1 (power), 2 (power), 3 (power)

## CON_REMOTE_BATT
designator J?, comment 1908761
2 pin Battery Connector 3.81mm pitch; Manufacturer: Phoenix Contact; OrderCode: 1908761 + 1840366; Distributor: Mouser
footprint CON_REMOTE_BATT (2 pin Power Connector)
pins: 1 BATT+, 2 GND
text: BATT

## CON_REMOTE_BUTON_MENU
designator J?, comment B4B-PH-K-S(LF)(SN)
4 pin header - 2mm pitch; Manufacturer: JST; Distributor: Digikey; OrderCode: B4B-PH-K-S(LF)(SN)
footprint CON_HEADER-4p_VERT-JST-PH (2mm pitch)
pins: 1 GND, 2 LEFT, 3 RIGHT, 4 ENTER/ESC
text: MENU

## CON_REMOTE_DC_IN
designator J?, comment 1908761
2 pin DC-in Connector 3.81mm pitch; Manufacturer: Phoenix Contact; OrderCode: 1908761 + 1840366; Distributor: Mouser
footprint CON_REMOTE_BATT (2 pin Power Connector)
pins: 1 DCIN+, 2 GND
text: DC IN

## CON_REMOTE_I2C_SPI
designator J?, comment B6B-PH-K-S(LF)(SN)
6 pin header - 2mm pitch; Manufacturer: JST; Distributor: Digikey; OrderCode: B6B-PH-K-S(LF)(SN)
footprint CON_HEADER-6p_VERT-JST-PH (2mm pitch)
pins: 1 GND, 2 VCC, 3 SCK/SCL, 4 SDO, 5 SDI/SDA, 6 ~{CS}
text: I2C/SPI

## CON_REMOTE_LCD_EXT2
designator J?, comment XF2M-3615-1A
36 pin FPC connector; Manufacturer: Omron; Distributor: Mouser; OrderCode: XF2M-3615-1A
footprint CON_FPC_36 (FPC connector 0.5mm pitch)
pins: 2 CL, 3 ~{CS1}, 4 ~{RES}, 5 D/~{C}, 6 R/~{W}, 7 E/~{RD}, 8 D0, 9 D1, 10 D2, 11 D3, 12 D4, 13 D5, 14 D6, 15 D7, 16 VDD, 17 VSS, 18 VEE, 19 C3N, 20 C1N, 21 C1P, 22 C2N, 23 C2P, 24 VFS, 25 VL2, 26 VL3, 27 VL4, 28 VL5, 29 VL6, 30 VF, 31 CLS, 32 C68/~{80}, 33 P/~{S}, 34 ~{HPM}, 35 IRS
text: LCD

## CON_REMOTE_LCD_EXT_BRD
designator J?, comment 52746-2070
20 pin FPC connector; Manufacturer: Molex + Parlex; OrderCode: 52746-2070 + 050R20-51B; Distributor: Digikey
footprint CON_FPC_20 (FPC connector 0.5mm pitch)
pins: 1 GND, 2 GND, 3 GND, 4 GND, 5 GND, 6 GND, 7 GND, 8 A0, 9 R/W, 10 E, 11 D0, 12 D1, 13 D2, 14 D3, 15 D4, 16 D5, 17 D6, 18 D7, 19 VCC, 20 VCC
text: LCD

## CON_REMOTE_LCD_EXT_BRD_1
designator J?, comment 52746-2070
20 pin FPC connector; Manufacturer: Molex + Parlex; OrderCode: 52746-2070 + 050R20-51B; Distributor: Digikey
footprint CON_FPC_20 (FPC connector 0.5mm pitch)
pins: 1 GND, 2 GND, 3 GND, 4 GND, 5 GND, 6 GND, 7 GND, 8 A0, 9 R/W, 10 E, 11 D0, 12 D1, 13 D2, 14 D3, 15 D4, 16 D5, 17 D6, 18 D7, 19 VCC, 20 VCC
text: LCD

## CON_REMOTE_POT_LEFT
designator J?, comment B6B-PH-K-S(LF)(SN)
6 pin header - 2mm pitch; Manufacturer: JST; Distributor: Digikey; OrderCode: B6B-PH-K-S(LF)(SN)
footprint CON_HEADER-6p_VERT-JST-PH (2mm pitch)
pins: 1 ELE-, 2 ELE>, 3 ELE+, 4 RUD-, 5 RUD>, 6 RUD+
text: POT_LEFT

## CON_REMOTE_POT_RIGHT
designator J?, comment B6B-PH-K-S(LF)(SN)
6 pin header - 2mm pitch; Manufacturer: JST; Distributor: Digikey; OrderCode: B6B-PH-K-S(LF)(SN)
footprint CON_HEADER-6p_VERT-JST-PH (2mm pitch)
pins: 1 AIL-, 2 AIL>, 3 AIL+, 4 THR-, 5 THR>, 6 THR+
text: POT_RIGHT

## CON_REMOTE_SW_LEFT
designator J?, comment B6B-PH-K-S(LF)(SN)
6 pin header - 2mm pitch; Manufacturer: JST; Distributor: Digikey; OrderCode: B6B-PH-K-S(LF)(SN)
footprint CON_HEADER-6p_VERT-JST-PH (2mm pitch)
pins: 1 F MODE-, 2 F MODE+, 3 ELEV D/R-, 4 ELEV D/R+, 5 GYRO-, 6 GYRO+
text: SW_LEFT

## CON_REMOTE_SW_POWER
designator J?, comment B6B-PH-K-S(LF)(SN)
6 pin header - 2mm pitch; Manufacturer: JST; Distributor: Digikey; OrderCode: B6B-PH-K-S(LF)(SN)
footprint CON_HEADER-6p_VERT-JST-PH (2mm pitch)
pins: 1 BUZZER+, 2 GND, 3 PWR, 4 BAT BOX, 5 BAT, 6 PW-ON CHK
text: SW_POWER

## CON_REMOTE_SW_REAR
designator J?, comment B4B-PH-K-S(LF)(SN)
4 pin header - 2mm pitch; Manufacturer: JST; Distributor: Digikey; OrderCode: B4B-PH-K-S(LF)(SN)
footprint CON_HEADER-4p_VERT-JST-PH (2mm pitch)
pins: 1 TRAINER-, 2 TRAINER+, 3 TH_HOLD-, 4 TH_HOLD+
text: SW_REAR

## CON_REMOTE_SW_RIGHT
designator J?, comment B6B-PH-K-S(LF)(SN)
6 pin header - 2mm pitch; Manufacturer: JST; Distributor: Digikey; OrderCode: B6B-PH-K-S(LF)(SN)
footprint CON_HEADER-6p_VERT-JST-PH (2mm pitch)
pins: 1 AIL D/R-, 2 AIL D/R+, 3 RUDD D/R-, 4 RUDD D/R+, 5 THR_CUT-, 6 THR_CUT+
text: SW_RIGHT

## CON_REMOTE_TRIM_LEFT
designator J?, comment B6B-PH-K-S(LF)(SN)
6 pin header - 2mm pitch; Manufacturer: JST; Distributor: Digikey; OrderCode: B6B-PH-K-S(LF)(SN)
footprint CON_HEADER-6p_VERT-JST-PH (2mm pitch)
pins: 1 RUD DN, 2 RUD-, 3 RUD UP, 4 ELE DN, 5 ELE-, 6 ELE UP
text: TR_LEFT

## CON_REMOTE_TRIM_RIGHT
designator J?, comment B6B-PH-K-S(LF)(SN)
6 pin header - 2mm pitch; Manufacturer: JST; Distributor: Digikey; OrderCode: B6B-PH-K-S(LF)(SN)
footprint CON_HEADER-6p_VERT-JST-PH (2mm pitch)
pins: 1 AIL DN, 2 AIL-, 3 AIL UP, 4 THR DN, 5 THR-, 6 THR UP
text: TR_RIGHT

## CON_RS-232
designator J?, comment 53047-1010
10 pin header - 1.25mm pitch; Manufacturer: Molex; OrderCode: 53047-1010 + 51021-1000 + 10 x 50079-8000; Distributor: Digikey
footprint CON_Header-10p (1.25mm pitch header)
pins: 1 DCD, 2 RXD, 3 TXD, 4 DTR, 5 GND, 6 DSR, 7 RTS, 8 CTS, 9 RI, 10 GND
text: RS-232

## CON_RS-232_DSUB
designator J?, comment 1734351-1
MALE D-SUB; Manufacturer: Tyco Electronics; Distributor: Digikey; OrderCode: 1734351-1
footprint CON_DSUB-MALE (Connector; MALE D Subminiature; 9 Position; Right Angle; Pitch 1.385 mm)
pins: 0 SHIELD, 1 DCD, 2 RXD, 3 TXD, 4 DTR, 5 GND, 6 DSR, 7 RTS, 8 CTS, 9 RI
text: RS-232

## CON_RS-232_SMD
designator J?, comment 53398-1071
10 pin header - 1.25mm pitch; Manufacturer: Molex; OrderCode: 53398-1071 + 51021-1000 + 10 x 50079-8000; Distributor: Digikey
footprint CON_HEADER-10P_SMD (1.25mm pitch header)
pins: 1 DCD, 2 RXD, 3 TXD, 4 DTR, 5 GND, 6 DSR, 7 RTS, 8 CTS, 9 RI, 10 GND
text: RS-232

## CON_SATA
designator J?, comment 67491-1032
CONN HEADER SATA 7POS PCB; Manufacturer: Molex; Distributor: Digikey; OrderCode: 67491-1032
footprint CON_SATA (Internal SATA Connector 7 pin)
pins: 0 SHIELD, 1 GND, 2 A+, 3 A-, 4 GND, 5 B-, 6 B+, 7 GND
text: SATA

## CON_SERVO
designator J?, comment 53047-1010
16pin header - 1.25mm pitch; Manufacturer: Molex; OrderCode: 53047-1010 + 51021-1000 + 10 x 50079-8000; Distributor: Digikey
footprint CON_Header-10p (1.25mm pitch header)
pins: 1 PWM0, 2 PWM1, 3 PWM2, 4 PWM3, 5 PWM4, 6 PWM5, 7 PWM6, 8 PWM7, 9 GND, 10 GND
text: SERVO

## CON_SERVO_Power
designator J?, comment 53047-1010
16pin header - 1.25mm pitch; Manufacturer: Molex; OrderCode: 53047-1010 + 51021-1000 + 10 x 50079-8000; Distributor: Digikey
footprint CON_Header-10p (1.25mm pitch header)
pins: 1 VCC, 2 GND, 3 VCC, 4 GND, 5 VCC, 6 GND, 7 VCC, 8 GND, 9 VCC, 10 GND
text: SERVO

## CON_Servomotor_BB_Pot
designator J?
Internal servomotor connector - potentiometer
footprint CON_Servomotor_BB-2.5 (Board to board sermonotor connector 2.5mm pitch)
pins: 1 Vref, 2 Cursor, 3 GND
text: POT

## CON_Servomotor_BB_Signal
designator J?
Internal servomotor connector - Signal and power
footprint CON_Servomotor_BB-2 (Board to board sermonotor connector 2mm pitch)
pins: 1 GND, 2 VCC, 3 PWM
text: SIG

## CON_SERVOMOTOR_PWM
designator J?, comment 70553-0002
3pin PWM Servomotor Connector 2.54mm pitch; Manufacturer: Molex; Distributor: Digikey; OrderCode: 70553-0002
footprint CON_SERVOMOTOR_PWM (3-pin PWM servomotor connector)
pins: 1 GND, 2 VCC, 3 PWM
text: SERVO

## CON_SERVOMOTOR_PWM_VERT
designator J?, comment 90120-0763
3pin PWM Servomotor Connector 2.54mm pitch vertical; Manufacturer: Molex; Distributor: Digikey; OrderCode: 90120-0763
footprint CON_SERVOMOTOR_PWM VERT (3-pin PWM servomotor connector (Vertical))
pins: 1 GND, 2 VCC, 3 PWM
text: SERVO

## CON_Speed_SYSTEM
designator J?, comment 70553-0003
4pin Speed Connector 2.54mm pitch (low current); Manufacturer: Molex; Distributor: Digikey; OrderCode: 70553-0003
footprint CON_Speed_System (4-pin Speed connector)
pins: 1 PHASE+, 2 PHASE-, 3 VCC, 4 GND
text: SPEED

## CON_Speed_WIRE
designator J?, comment WIRES
4 wire Speed Sensor Connector
footprint CON_Speed_Wire (4-pin Speed sensor connector - sensor side)
pins: 1 PHASE+, 2 PHASE-, 3 VCC, 4 GND
text: SPEED-W

## CON_TEMP
designator J?, comment 53047-0310
2 pin header - 1.25mm pitch; Manufacturer: Molex; OrderCode: 53047-0210 + 51021-0200 + 2 x 50079-8000; Distributor: Digikey
footprint CON_TEMP (Temperature Sensor Connector)
pins: 1 D+, 2 D-
text: TEMP

## CON_TV-OUT
designator J?, comment KMDRX-GEO-7S-BS
S-Video 7 pin connector; Manufacturer: Kycon; Distributor: Mouser; OrderCode: KMDRX-GEO-7S-BS
footprint CON_S-VIDEO (7-pin S-Video Connector)
pins: 0 SHIELD, 1 GND, 2 GND, 3 Y, 4 C, 5 GND, 6 Comp, 7 Comp
text: TV-OUT

## CON_USB_Header_6p_1.25mm
designator J?, comment 53047-0610
6 pin header - 1.25mm pitch; Manufacturer: Molex; OrderCode: 53047-0610 + 51021-0600 + 6 x 50079-8000; Distributor: Digikey
footprint CON_USB_WIRE (Connector for USB wires)
pins: 1 VCC, 2 D-, 3 D+, 4 GND, 5 SHIELD, 6 SHIELD
text: USB; WIRE

## CON_USB_Type_A-2
designator J?, comment 67298-4090
CONN USB TYPE A 2 Stacked Receptacles; Manufacturer: Molex; Distributor: Digikey; OrderCode: 67298-4090
footprint CON_USB_A-2 (USB Type A Stacked Connector)
pins: 1 VCC1, 2 D1-, 3 D1+, 4 GND1, 5 VCC2, 6 D2-, 7 D2+, 8 GND2, 9 SHIELD, 10 SHIELD, 11 SHIELD, 12 SHIELD
text: USB; Type A

## CON_USB_Type_B
designator J?, comment 61729-0010BLF
CONN USB TYPE B Receptacle; Manufacturer: FCI; Distributor: Digikey; OrderCode: 61729-0010BLF
footprint CON_USB_B (USB Type B Connector)
pins: 1 VCC, 2 D-, 3 D+, 4 GND, 5 SHIELD, 6 SHIELD
text: USB; Type B

## CON_USB_Type_B_Mini
designator J?, comment UX60-MB-5S8
CONN MINI USB TYPE B Receptacle; Manufacturer: Hirose; Distributor: Digikey; OrderCode: UX60-MB-5S8
footprint CON_USB_B_MINI (Mini USB Type B Connector)
pins: 0 SHIELD, 1 VCC, 2 D-, 3 D+, 4 ID, 5 GND
text: MINI; USB

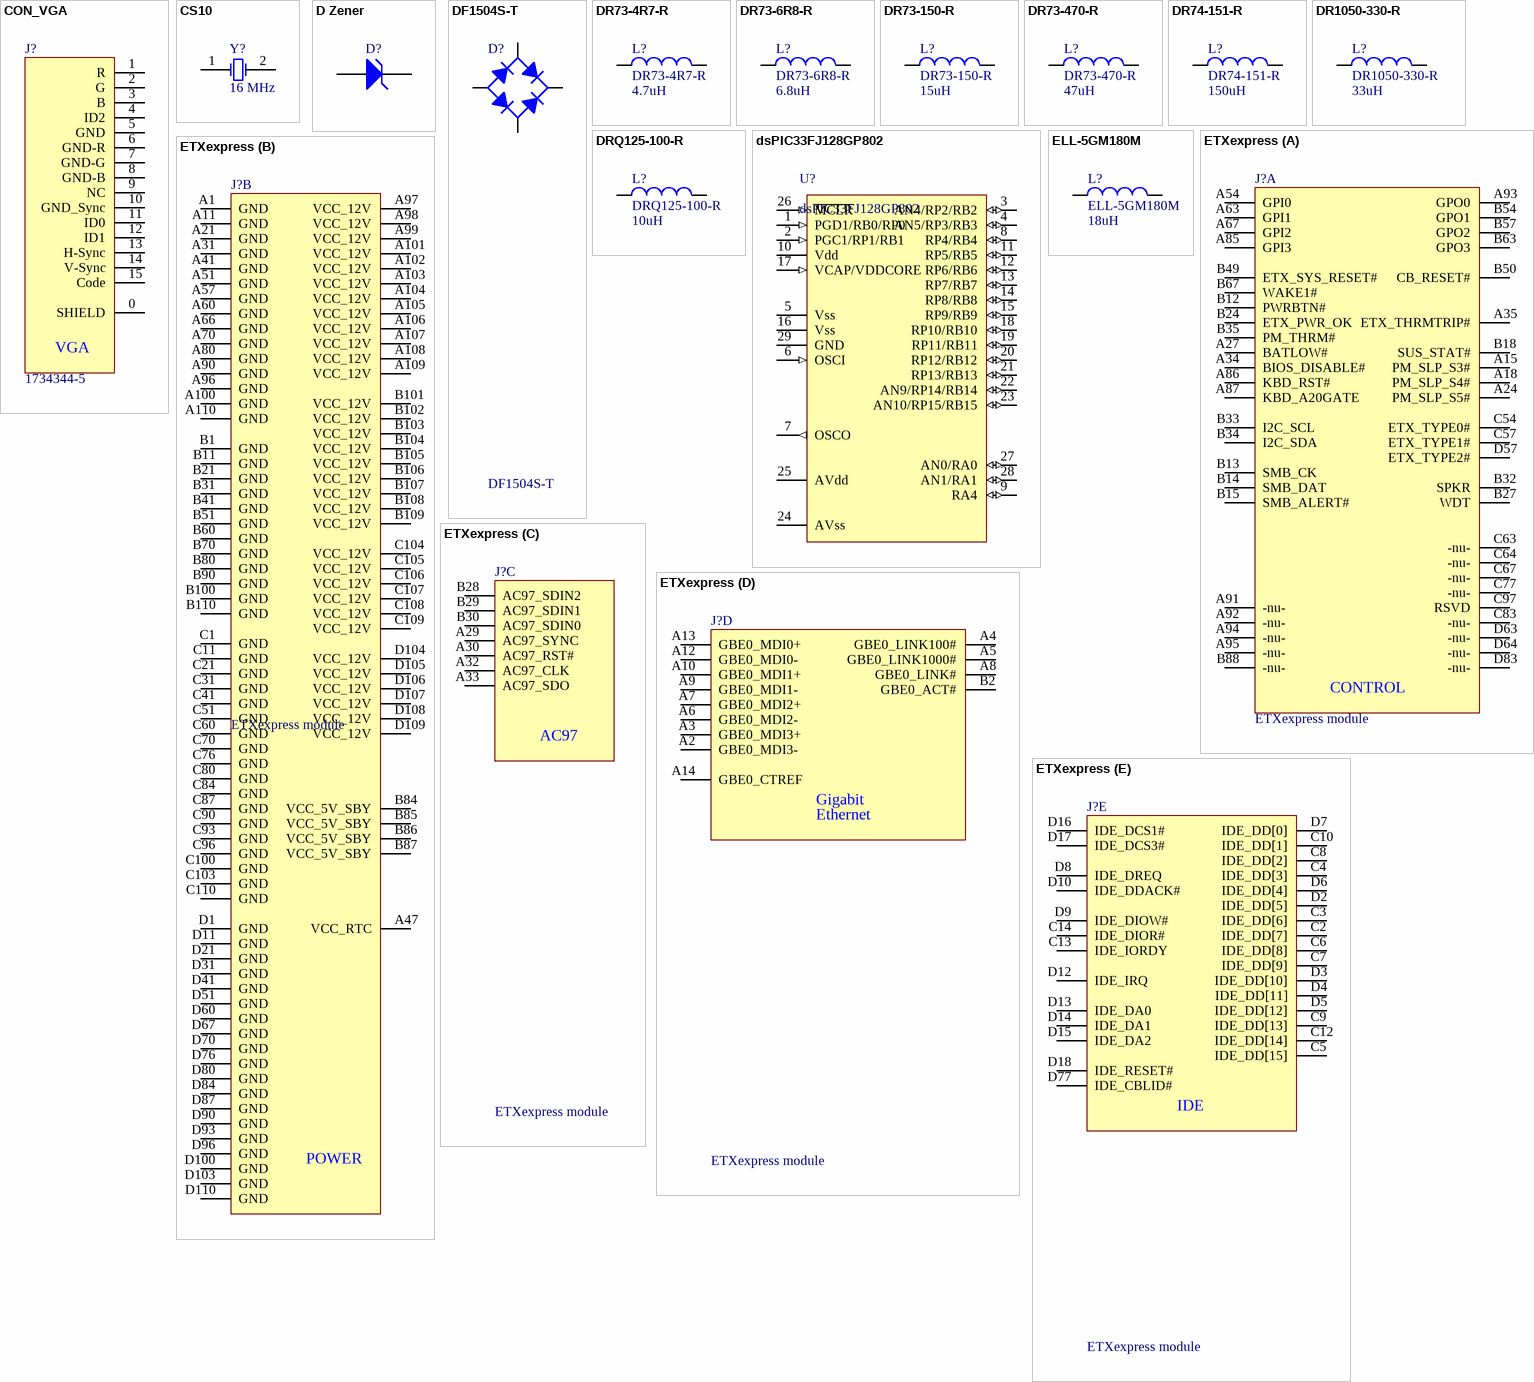
[diagram p5: symbols CON_VGA to ETXexpress]

## CON_VGA
designator J?, comment 1734344-5
VGA 15 pin connector; Manufacturer: Tyco; Distributor: Digikey; OrderCode: 1734344-5
footprint CON_DB15-HD (DB15 HD connector - 15 pins)
pins: 0 SHIELD, 1 R, 2 G, 3 B, 4 ID2, 5 GND, 6 GND-R, 7 GND-G, 8 GND-B, 9 NC, 10 GND_Sync, 11 ID0, 12 ID1, 13 H-Sync, 14 V-Sync, 15 Code
text: VGA

## CS10
designator Y?, comment value 16 MHz  (hidden comment: CS10-16.000MABJ-UT)
Crystal Oscillator; Manufacturer: Citizen; Distributor: Digikey; OrderCode: CS10-16.000MABJ-UT
footprint CS10 (Crystal)
simulation model XTAL (Spice Subcircuit)
pins: 1 OSC1, 2 OSC2

## D Zener
designator D?
Zener Diode
footprint PowerDI 123 (SMD Diode)
simulation model ZENER (Diode)
signal-integrity model D Zener
pins: 1 A, 2 K

## DF1504S-T
designator D?
1.5A diode bridge; Manufacturer: Diodes Inc; Distributor: Digikey; OrderCode: DF1504S-T
footprint DF-S (Diode Bridge 8.3mm x 7.6mm)
pins: 1 +, 2 -, 3 AC, 4 AC

## DR73-4R7-R
designator L?  value 4.7uH
Inductor 4.7uH 3A Coiltronics; Manufacturer: Coiltronics; Distributor: Digikey; OrderCode: DR73-4R7-R
footprint DR73 (Coil footprint)
simulation model INDUCTOR (Inductor)
signal-integrity model Inductor
pins: 1, 2

## DR73-6R8-R
designator L?  value 6.8uH
Inductor 4.7uH 3A Coiltronics; Manufacturer: Coiltronics; Distributor: Digikey; OrderCode: DR73-6R8-R
footprint DR73 (Coil footprint)
simulation model INDUCTOR (Inductor)
signal-integrity model Inductor
pins: 1, 2

## DR73-150-R
designator L?  value 15uH
Inductor 15uH 1.83A Coiltronics; Manufacturer: Coiltronics; Distributor: Digikey; OrderCode: DR73-150-R
footprint DR73 (Coil footprint)
simulation model INDUCTOR (Inductor)
signal-integrity model Inductor
pins: 1, 2

## DR73-470-R
designator L?  value 47uH
Inductor 47uH 1A Coiltronics; Manufacturer: Coiltronics; Distributor: Digikey; OrderCode: DR73-470-R
footprint DR73 (Coil footprint)
simulation model INDUCTOR (Inductor)
signal-integrity model Inductor
pins: 1, 2

## DR74-151-R
designator L?  value 150uH
Inductor 150uH 0.69A Coiltronics; Manufacturer: Coiltronics; Distributor: Digikey; OrderCode: DR74-151-R
footprint DR74 (Coil footprint)
simulation model INDUCTOR (Inductor)
signal-integrity model Inductor
pins: 1, 2

## DR1050-330-R
designator L?  value 33uH
Inductor 33uH 2.5A Coiltronics; Manufacturer: Coiltronics; Distributor: Digikey; OrderCode: DR1050-330-R
footprint DR1050 (Coil footprint)
simulation model INDUCTOR (Inductor)
signal-integrity model Inductor
pins: 1, 2

## DRQ125-100-R
designator L?  value 10uH
Inductor 10uH 5.35A Coiltronics; Manufacturer: Coiltronics; Distributor: Digikey; OrderCode: DRQ125-100-R
footprint DRQ125-2 (Coil footprint)
simulation model INDUCTOR (Inductor)
signal-integrity model Inductor
pins: 1, 2

## dsPIC33FJ128GP802
designator U?
dsPIC33FJ128GP802 with 2 UART's; Manufacturer: MicroChip; OrderCode: *
footprint QFN6X6-28 (Quad Flat No Lead, Plastic, Punch; 28 Terminals; Body 6 x 6 mm; Pitch 0.65 mm)
pins: 1 PGD1/RB0/RP0 (in) "Programming Pin Data", 2 PGC1/RP1/RB1 (in) "Programming Pin Control", 3 AN4/RP2/RB2 (io), 4 AN5/RP3/RB3 (io), 5 Vss (power), 6 OSCI (in), 7 OSCO (out), 8 RP4/RB4 (io), 9 RA4 (io), 10 Vdd (power), 11 RP5/RB5 (io), 12 RP6/RB6 (io), 13 RP7/RB7 (io), 14 RP8/RB8 (io), 15 RP9/RB9 (io), 16 Vss (power), 17 VCAP/VDDCORE (in) "Input Cap for internal regulator", 18 RP10/RB10 (io), 19 RP11/RB11 (io), 20 RP12/RB12 (io), 21 RP13/RB13 (io), 22 AN9/RP14/RB14 (io), 23 AN10/RP15/RB15 (io), 24 AVss (power), 25 AVdd (power), 26 ~{MCLR} (in), 27 AN0/RA0 (io), 28 AN1/RA1 (io), 29 GND (power)

## ELL-5GM180M
designator L?  value 18uH
Inductor 18uH 600mA Panasonic; Manufacturer: Panasonic; Distributor: Digikey; OrderCode: ELL-5GM180M
footprint ELL5xM (Coil footprint)
simulation model INDUCTOR (Inductor)
signal-integrity model Inductor
pins: 1, 2

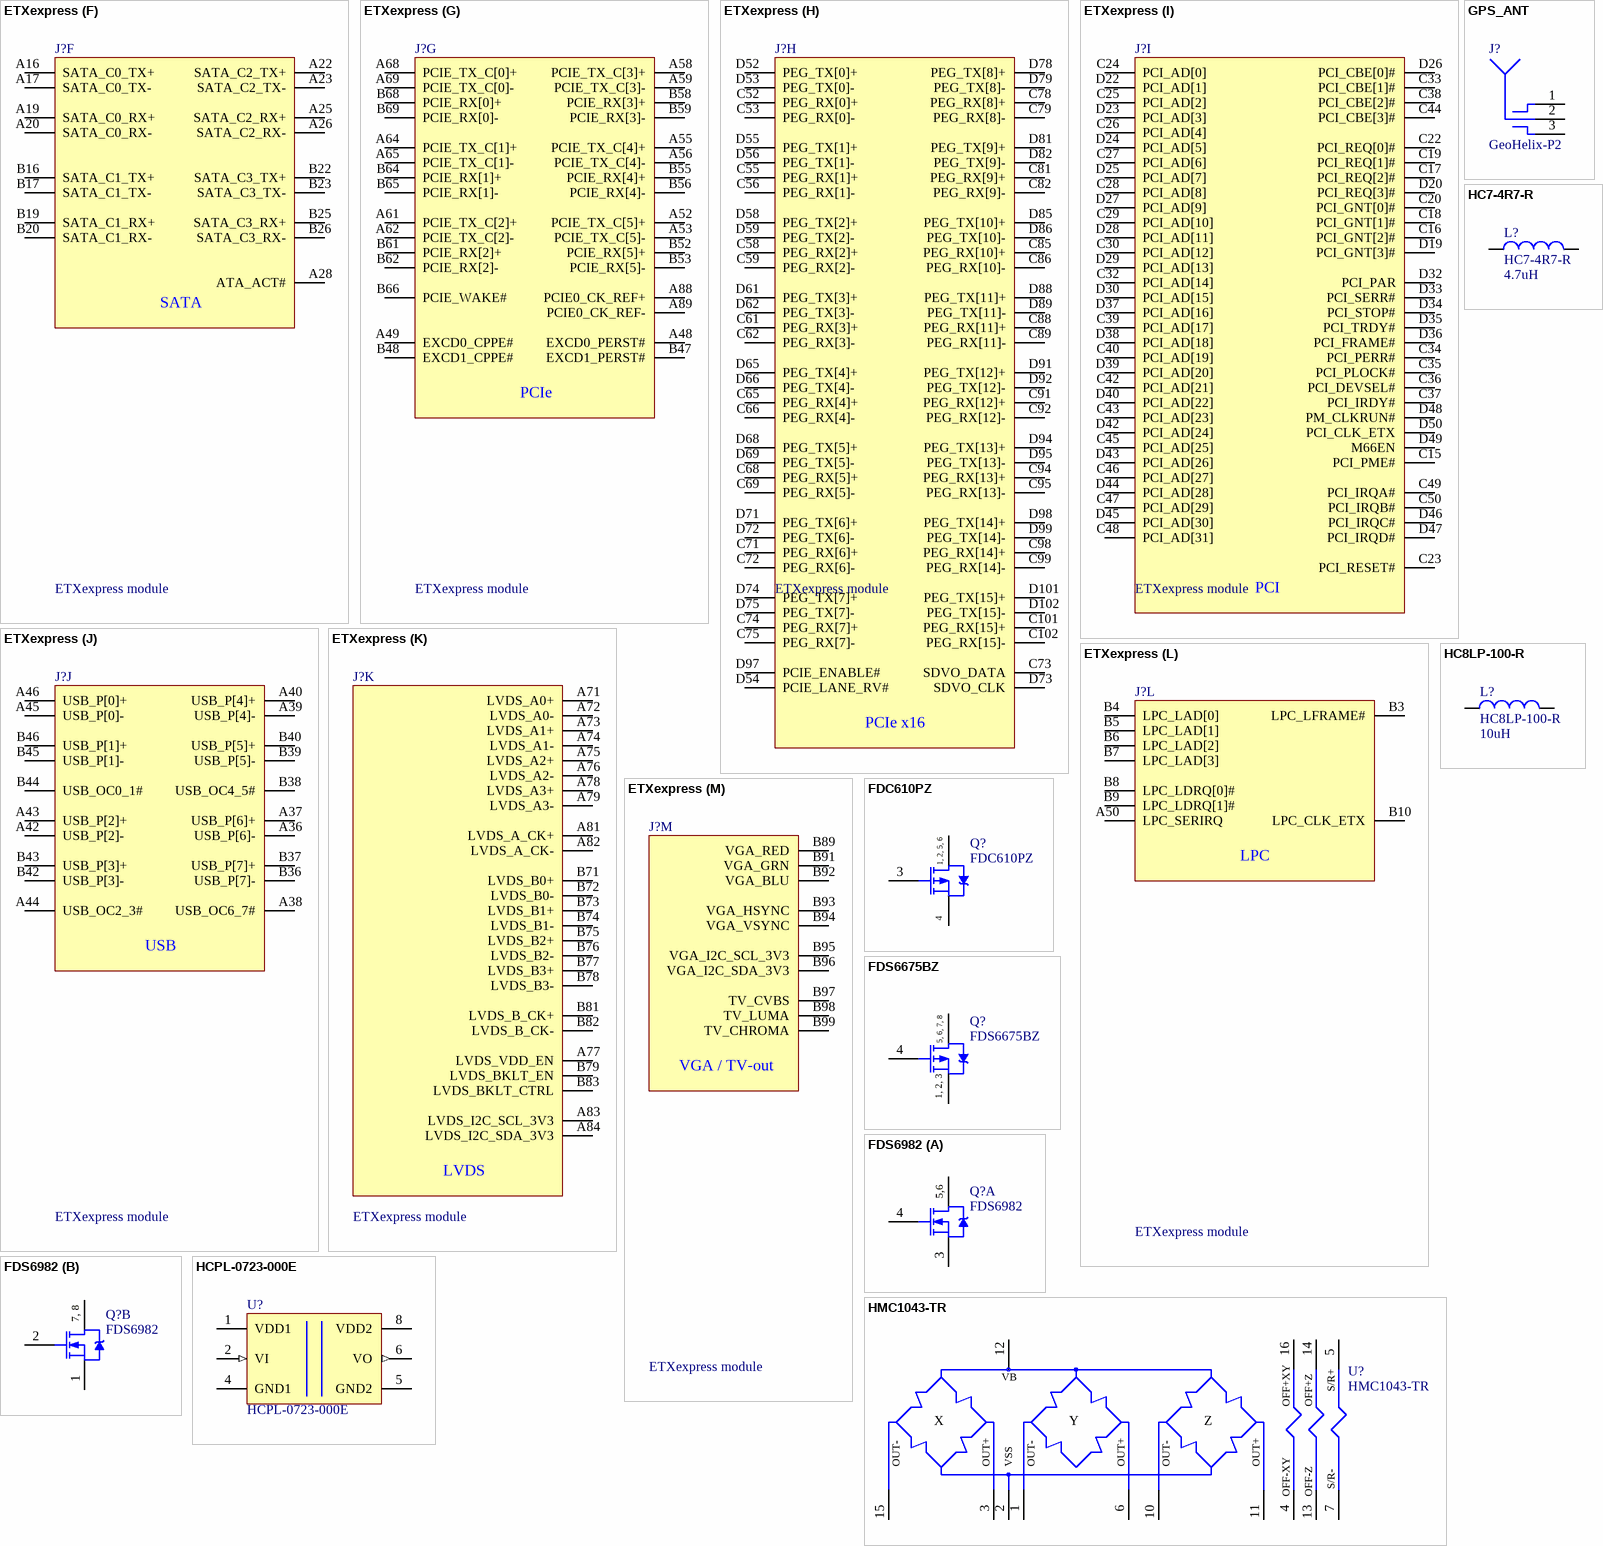
[diagram p6: symbols ETXexpress to HMC1043-TR]

## ETXexpress
designator J?, comment ETXexpress module
ETXexpress Type 2 Module
footprint ETXexpress_PLUG (ETXexpress Plug connector - 6H type 8-1318491-6)
part A pins: A15 PM_SLP_S3#, A18 PM_SLP_S4#, A24 PM_SLP_S5#, A27 BATLOW#, A34 BIOS_DISABLE#, A35 ETX_THRMTRIP#, A54 GPI0, A63 GPI1, A67 GPI2, A85 GPI3, A86 KBD_RST#, A87 KBD_A20GATE, A91 -nu-, A92 -nu-, A93 GPO0, A94 -nu-, A95 -nu-, B12 PWRBTN#, B13 SMB_CK, B14 SMB_DAT, B15 SMB_ALERT#, B18 SUS_STAT#, B24 ETX_PWR_OK, B27 WDT, B32 SPKR, B33 I2C_SCL, B34 I2C_SDA, B35 PM_THRM#, B49 ETX_SYS_RESET#, B50 CB_RESET#, B54 GPO1, B57 GPO2, B63 GPO3, B67 WAKE1#, B88 -nu-, C54 ETX_TYPE0#, C57 ETX_TYPE1#, C63 -nu-, C64 -nu-, C67 -nu-, C77 -nu-, C83 -nu-, C97 RSVD, D57 ETX_TYPE2#, D63 -nu-, D64 -nu-, D83 -nu-
part B pins: A1 GND, A11 GND, A21 GND, A31 GND, A41 GND, A47 VCC_RTC, A51 GND, A57 GND, A60 GND, A66 GND, A70 GND, A80 GND, A90 GND, A96 GND, A97 VCC_12V, A98 VCC_12V, A99 VCC_12V, A100 GND, A101 VCC_12V, A102 VCC_12V, A103 VCC_12V, A104 VCC_12V, A105 VCC_12V, A106 VCC_12V, A107 VCC_12V, A108 VCC_12V, A109 VCC_12V, A110 GND, B1 GND, B11 GND, B21 GND, B31 GND, B41 GND, B51 GND, B60 GND, B70 GND, B80 GND, B84 VCC_5V_SBY, B85 VCC_5V_SBY, B86 VCC_5V_SBY, B87 VCC_5V_SBY, B90 GND, B100 GND, B101 VCC_12V, B102 VCC_12V, B103 VCC_12V, B104 VCC_12V, B105 VCC_12V, B106 VCC_12V, B107 VCC_12V, B108 VCC_12V, B109 VCC_12V, B110 GND, C1 GND, C11 GND, C21 GND, C31 GND, C41 GND, C51 GND, C60 GND, C70 GND, C76 GND, C80 GND, C84 GND, C87 GND, C90 GND, C93 GND, C96 GND, C100 GND, C103 GND, C104 VCC_12V, C105 VCC_12V, C106 VCC_12V, C107 VCC_12V, C108 VCC_12V, C109 VCC_12V, C110 GND, D1 GND, D11 GND, D21 GND, D31 GND, D41 GND, D51 GND, D60 GND, D67 GND, D70 GND, D76 GND, D80 GND, D84 GND, D87 GND, D90 GND, D93 GND, D96 GND, D100 GND, D103 GND, D104 VCC_12V, D105 VCC_12V, D106 VCC_12V, D107 VCC_12V, D108 VCC_12V, D109 VCC_12V, D110 GND
part C pins: A29 AC97_SYNC, A30 AC97_RST#, A32 AC97_CLK, A33 AC97_SDO, B28 AC97_SDIN2, B29 AC97_SDIN1, B30 AC97_SDIN0
part D pins: A2 GBE0_MDI3-, A3 GBE0_MDI3+, A4 GBE0_LINK100#, A5 GBE0_LINK1000#, A6 GBE0_MDI2-, A7 GBE0_MDI2+, A8 GBE0_LINK#, A9 GBE0_MDI1-, A10 GBE0_MDI1+, A12 GBE0_MDI0-, A13 GBE0_MDI0+, A14 GBE0_CTREF, B2 GBE0_ACT#
part E pins: C2 IDE_DD[7], C3 IDE_DD[6], C4 IDE_DD[3], C5 IDE_DD[15], C6 IDE_DD[8], C7 IDE_DD[9], C8 IDE_DD[2], C9 IDE_DD[13], C10 IDE_DD[1], C12 IDE_DD[14], C13 IDE_IORDY, C14 IDE_DIOR#, D2 IDE_DD[5], D3 IDE_DD[10], D4 IDE_DD[11], D5 IDE_DD[12], D6 IDE_DD[4], D7 IDE_DD[0], D8 IDE_DREQ, D9 IDE_DIOW#, D10 IDE_DDACK#, D12 IDE_IRQ, D13 IDE_DA0, D14 IDE_DA1, D15 IDE_DA2, D16 IDE_DCS1#, D17 IDE_DCS3#, D18 IDE_RESET#, D77 IDE_CBLID#
part F pins: A16 SATA_C0_TX+, A17 SATA_C0_TX-, A19 SATA_C0_RX+, A20 SATA_C0_RX-, A22 SATA_C2_TX+, A23 SATA_C2_TX-, A25 SATA_C2_RX+, A26 SATA_C2_RX-, A28 ATA_ACT#, B16 SATA_C1_TX+, B17 SATA_C1_TX-, B19 SATA_C1_RX+, B20 SATA_C1_RX-, B22 SATA_C3_TX+, B23 SATA_C3_TX-, B25 SATA_C3_RX+, B26 SATA_C3_RX-
part G pins: A48 EXCD0_PERST#, A49 EXCD0_CPPE#, A52 PCIE_TX_C[5]+, A53 PCIE_TX_C[5]-, A55 PCIE_TX_C[4]+, A56 PCIE_TX_C[4]-, A58 PCIE_TX_C[3]+, A59 PCIE_TX_C[3]-, A61 PCIE_TX_C[2]+, A62 PCIE_TX_C[2]-, A64 PCIE_TX_C[1]+, A65 PCIE_TX_C[1]-, A68 PCIE_TX_C[0]+, A69 PCIE_TX_C[0]-, A88 PCIE0_CK_REF+, A89 PCIE0_CK_REF-, B47 EXCD1_PERST#, B48 EXCD1_CPPE#, B52 PCIE_RX[5]+, B53 PCIE_RX[5]-, B55 PCIE_RX[4]+, B56 PCIE_RX[4]-, B58 PCIE_RX[3]+, B59 PCIE_RX[3]-, B61 PCIE_RX[2]+, B62 PCIE_RX[2]-, B64 PCIE_RX[1]+, B65 PCIE_RX[1]-, B66 PCIE_WAKE#, B68 PCIE_RX[0]+, B69 PCIE_RX[0]-
part H pins: C52 PEG_RX[0]+, C53 PEG_RX[0]-, C55 PEG_RX[1]+, C56 PEG_RX[1]-, C58 PEG_RX[2]+, C59 PEG_RX[2]-, C61 PEG_RX[3]+, C62 PEG_RX[3]-, C65 PEG_RX[4]+, C66 PEG_RX[4]-, C68 PEG_RX[5]+, C69 PEG_RX[5]-, C71 PEG_RX[6]+, C72 PEG_RX[6]-, C73 SDVO_DATA, C74 PEG_RX[7]+, C75 PEG_RX[7]-, C78 PEG_RX[8]+, C79 PEG_RX[8]-, C81 PEG_RX[9]+, C82 PEG_RX[9]-, C85 PEG_RX[10]+, C86 PEG_RX[10]-, C88 PEG_RX[11]+, C89 PEG_RX[11]-, C91 PEG_RX[12]+, C92 PEG_RX[12]-, C94 PEG_RX[13]+, C95 PEG_RX[13]-, C98 PEG_RX[14]+, C99 PEG_RX[14]-, C101 PEG_RX[15]+, C102 PEG_RX[15]-, D52 PEG_TX[0]+, D53 PEG_TX[0]-, D54 PCIE_LANE_RV#, D55 PEG_TX[1]+, D56 PEG_TX[1]-, D58 PEG_TX[2]+, D59 PEG_TX[2]-, D61 PEG_TX[3]+, D62 PEG_TX[3]-, D65 PEG_TX[4]+, D66 PEG_TX[4]-, D68 PEG_TX[5]+, D69 PEG_TX[5]-, D71 PEG_TX[6]+, D72 PEG_TX[6]-, D73 SDVO_CLK, D74 PEG_TX[7]+, D75 PEG_TX[7]-, D78 PEG_TX[8]+, D79 PEG_TX[8]-, D81 PEG_TX[9]+, D82 PEG_TX[9]-, D85 PEG_TX[10]+, D86 PEG_TX[10]-, D88 PEG_TX[11]+, D89 PEG_TX[11]-, D91 PEG_TX[12]+, D92 PEG_TX[12]-, D94 PEG_TX[13]+, D95 PEG_TX[13]-, D97 PCIE_ENABLE#, D98 PEG_TX[14]+, D99 PEG_TX[14]-, D101 PEG_TX[15]+, D102 PEG_TX[15]-
part I pins: C15 PCI_PME#, C16 PCI_GNT[2]#, C17 PCI_REQ[2]#, C18 PCI_GNT[1]#, C19 PCI_REQ[1]#, C20 PCI_GNT[0]#, C22 PCI_REQ[0]#, C23 PCI_RESET#, C24 PCI_AD[0], C25 PCI_AD[2], C26 PCI_AD[4], C27 PCI_AD[6], C28 PCI_AD[8], C29 PCI_AD[10], C30 PCI_AD[12], C32 PCI_AD[14], C33 PCI_CBE[1]#, C34 PCI_PERR#, C35 PCI_PLOCK#, C36 PCI_DEVSEL#, C37 PCI_IRDY#, C38 PCI_CBE[2]#, C39 PCI_AD[17], C40 PCI_AD[19], C42 PCI_AD[21], C43 PCI_AD[23], C44 PCI_CBE[3]#, C45 PCI_AD[25], C46 PCI_AD[27], C47 PCI_AD[29], C48 PCI_AD[31], C49 PCI_IRQA#, C50 PCI_IRQB#, D19 PCI_GNT[3]#, D20 PCI_REQ[3]#, D22 PCI_AD[1], D23 PCI_AD[3], D24 PCI_AD[5], D25 PCI_AD[7], D26 PCI_CBE[0]#, D27 PCI_AD[9], D28 PCI_AD[11], D29 PCI_AD[13], D30 PCI_AD[15], D32 PCI_PAR, D33 PCI_SERR#, D34 PCI_STOP#, D35 PCI_TRDY#, D36 PCI_FRAME#, D37 PCI_AD[16], D38 PCI_AD[18], D39 PCI_AD[20], D40 PCI_AD[22], D42 PCI_AD[24], D43 PCI_AD[26], D44 PCI_AD[28], D45 PCI_AD[30], D46 PCI_IRQC#, D47 PCI_IRQD#, D48 PM_CLKRUN#, D49 M66EN, D50 PCI_CLK_ETX
part J pins: A36 USB_P[6]-, A37 USB_P[6]+, A38 USB_OC6_7#, A39 USB_P[4]-, A40 USB_P[4]+, A42 USB_P[2]-, A43 USB_P[2]+, A44 USB_OC2_3#, A45 USB_P[0]-, A46 USB_P[0]+, B36 USB_P[7]-, B37 USB_P[7]+, B38 USB_OC4_5#, B39 USB_P[5]-, B40 USB_P[5]+, B42 USB_P[3]-, B43 USB_P[3]+, B44 USB_OC0_1#, B45 USB_P[1]-, B46 USB_P[1]+
part K pins: A71 LVDS_A0+, A72 LVDS_A0-, A73 LVDS_A1+, A74 LVDS_A1-, A75 LVDS_A2+, A76 LVDS_A2-, A77 LVDS_VDD_EN, A78 LVDS_A3+, A79 LVDS_A3-, A81 LVDS_A_CK+, A82 LVDS_A_CK-, A83 LVDS_I2C_SCL_3V3, A84 LVDS_I2C_SDA_3V3, B71 LVDS_B0+, B72 LVDS_B0-, B73 LVDS_B1+, B74 LVDS_B1-, B75 LVDS_B2+, B76 LVDS_B2-, B77 LVDS_B3+, B78 LVDS_B3-, B79 LVDS_BKLT_EN, B81 LVDS_B_CK+, B82 LVDS_B_CK-, B83 LVDS_BKLT_CTRL
part L pins: A50 LPC_SERIRQ, B3 LPC_LFRAME#, B4 LPC_LAD[0], B5 LPC_LAD[1], B6 LPC_LAD[2], B7 LPC_LAD[3], B8 LPC_LDRQ[0]#, B9 LPC_LDRQ[1]#, B10 LPC_CLK_ETX
part M pins: B89 VGA_RED, B91 VGA_GRN, B92 VGA_BLU, B93 VGA_HSYNC, B94 VGA_VSYNC, B95 VGA_I2C_SCL_3V3, B96 VGA_I2C_SDA_3V3, B97 TV_CVBS, B98 TV_LUMA, B99 TV_CHROMA
part A text: CONTROL
part B text: POWER
part C text: AC97
part D text: Gigabit; Ethernet
part E text: IDE
part F text: SATA
part G text: PCIe
part H text: PCIe x16
part I text: PCI
part J text: USB
part K text: LVDS
part L text: LPC
part M text: VGA / TV-out

## FDC610PZ
designator Q?
TMOS Single P Channel Field Effect Transistor; Manufacturer: Fairchild; Distributor: Digikey; OrderCode: FDC610PZ
footprint SSOT-6 (0.95mm pitch)
pins: 1 D, 2 D, 3 G, 4 S, 5 D, 6 D
text: 1, 2, 5, 6

## FDS6675BZ
designator Q?
TMOS Single P Channel Field Effect Transistor; Manufacturer: Fairchild; Distributor: Digikey; OrderCode: FDS6675
footprint SO-G8/E2.5 (Small Outline, Plastic; 8 Leads; Body Width 3.9 mm)
pins: 1 S, 2 S, 3 S, 4 G, 5 D, 6 D, 7 D, 8 D
text: 5, 6, 7, 8; 1, 2, 3

## FDS6982
designator Q?
Dual Power MOSFET; Manufacturer: Fairchild; Class: Discrete; SubClass: MOSFET - Power; Published: 8/06/2000; Publisher: Altium Hobart Technology Centre
footprint SO-G8/E2.5 (Small Outline, Plastic; 8 Leads; Body Width 3.9 mm)
part A pins: 3 S, 4 G, 5 D, 6 D
part B pins: 1 S, 2 G, 7 D, 8 D
part A text: 5,6
part B text: 7, 8

## GPS_ANT
designator J?, comment GeoHelix-P2
GPS Helical antenna; Manufacturer: Sarantel; OrderCode: GeoHelix-P2; Distributor: Sarantel
footprint GPS_Antenna (GPS Helical Antenna)
pins: 1 GND, 2 SIGNAL, 3 GND

## HC7-4R7-R
designator L?  value 4.7uH
Inductor 4.7uH 9A Coiltronics; Manufacturer: Coiltronics; Distributor: Digikey; OrderCode: HC7-4R7-R
footprint HC7-XXX (Coil footprint)
simulation model INDUCTOR (Inductor)
signal-integrity model Inductor
pins: 1, 2

## HC8LP-100-R
designator L?  value 10uH
Inductor 4.7uH 9A Coiltronics; Manufacturer: Coiltronics; Distributor: Digikey; OrderCode: HC8LP-100-R
footprint HC8LP (Coil footprint)
simulation model INDUCTOR (Inductor)
signal-integrity model Inductor
pins: 1, 2

## HCPL-0723-000E
designator U?
50Mbps CMOS optoisolator; Manufacturer: Avago; Distributor: Digikey; OrderCode: HCPL-0723-000E
footprint SO-G8/E2.9 (Small Outline; 8 Leads; Body Width 3.9 mm; Pitch 1.27 mm)
pins: 1 VDD1 (power), 2 VI (in), 4 GND1 (power), 5 GND2 (power), 6 VO (out), 8 VDD2 (power)

## HMC1043-TR
designator U?
3-Axis Magnetic Sensor; Manufacturer: Honeywell; OrderCode: HMC1043-TR; Distributor: Digikey
footprint QFN3X3-16 - HMC1053 (Quad Flat No Lead, Plastic; 16 Terminals; Body 3 x 3 mm; Pitch 0.5 mm)
pins: 1 OUT-Y, 2 VSS, 3 OUT+X, 4 OFF-XY, 5 SR+, 6 OUT+Y, 7 SR-, 10 OUT-Z, 11 OUT+Z, 12 VB, 13 OFF-Z, 14 OFF+Z, 15 OUT-X, 16 OFF+XY
text: S/R+; X; Y; Z; OUT-; OUT+; S/R-

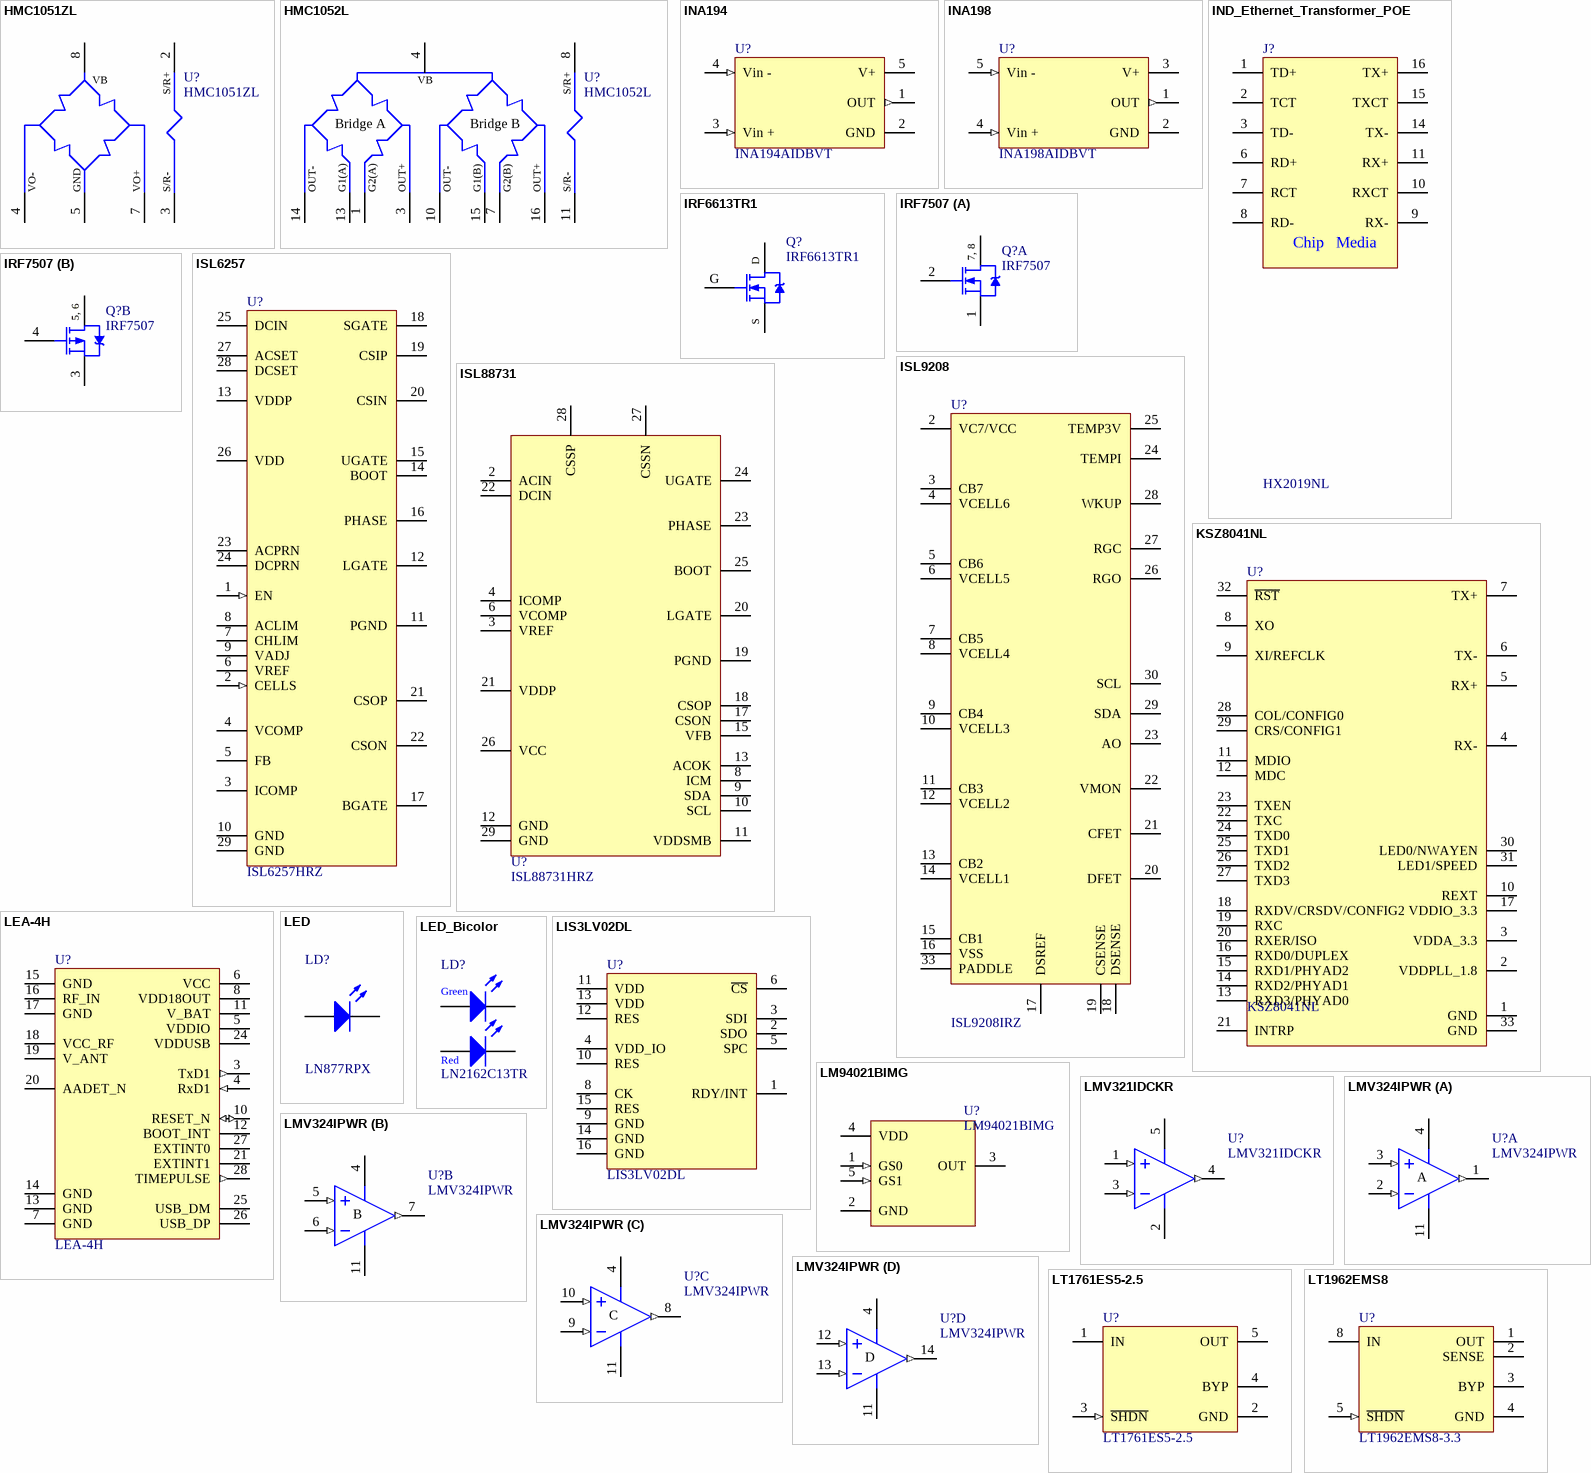
[diagram p7: symbols HMC1051ZL to LT1962EMS8]

## HMC1051ZL
designator U?
1-Axis Magnetic Sensor; Manufacturer: Honeywell; Distributor: Digikey; OrderCode: HMC1051ZL
footprint HMC1051ZL (Vertical Magnetic Sensor)
pins: 2 S/R+, 3 S/R-, 4 VO-, 5 GND, 7 VO+, 8 VB

## HMC1052L
designator U?
2-Axis Magnetic Sensor; Manufacturer: Honeywell; OrderCode: HMC1052L; Distributor: Digikey
footprint QFN3X3-16 - HMC1052L (Quad Flat No Lead, Plastic; 16 Terminals; Body 3 x 3 mm; Pitch 0.5 mm)
pins: 1 GND2(A), 3 OUT+, 4 VB, 7 GND2(B), 8 S/R+, 10 OUT-, 11 OUT-, 13 GND1(A), 14 OUT-, 15 GND1(B), 16 OUT+
text: Bridge A; Bridge B; G1(A); G2(A); G1(B); G2(B); S/R-

## INA194
designator U?, comment INA194AIDBVT
High Side Current Monitor 50V/V; Manufacturer: Texas Instruments; Distributor: Digikey; OrderCode: INA194AIDBVT
footprint SO-G5/P.95 (SOT-23/SC-74A; 5 Leads; Body 3.1 x 3 mm, inc. leads (LxW max))
pins: 1 OUT (out), 2 GND (power), 3 Vin + (in), 4 Vin - (in), 5 V+ (power)

## INA198
designator U?, comment INA198AIDBVT
High Side Current Monitor 100V/V; Manufacturer: Texas Instruments; Distributor: Digikey; OrderCode: INA198AIDBVT
footprint SO-G5/P.95 (SOT-23/SC-74A; 5 Leads; Body 3.1 x 3 mm, inc. leads (LxW max))
pins: 1 OUT (out), 2 GND (power), 3 V+ (power), 4 Vin + (in), 5 Vin - (in)